# Altium schematic symbol library Devs.SchLib: 148 symbols
Pins are listed as number, name and electrical type; pins without a type are passive.

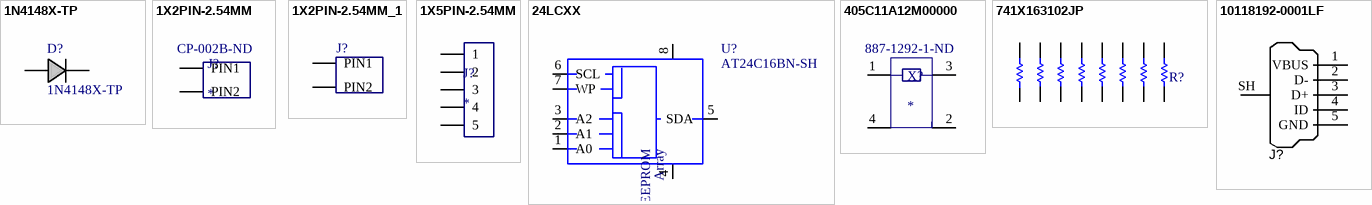
[diagram p0: symbols 1N4148X-TP to 10118192-0001LF]

## 1N4148X-TP
designator D?
DIODE GEN PURP 100V 150MA SOD123; Supplier 1: Digi-Key; Supplier Part Number 1: 1N4148WTPMSCT-ND
footprint SOD-123F (Powerlite-123)
pins: 1 +, 2 -

## 1X2PIN-2.54MM
designator J?  Supplier Part Number 1: CP-002B-ND
Supplier 1: Digi-Key
footprint HDR1X2 (Connector; Header; 2 Position)
pins: 1 PIN1, 2 PIN2

## 1X2PIN-2.54MM_1
designator J?, comment 1X2PIN-2.54MM  (value not drawn)
footprint HDR1X2 (Connector; Header; 2 Position)
pins: 1 PIN1, 2 PIN2

## 1X5PIN-2.54MM
designator J?
footprint HDR1X5
pins: 1, 2, 3, 4, 5

## 24LCXX
designator U?, comment AT24C16BN-SH
footprint SO-08MN (USECOMPONENTLIBRARY=T)
pins: 1 A0, 2 A1, 3 A2, 4 GND, 5 SDA, 6 SCL, 7 WP, 8 VCC
text: EEPROM; Array

## 405C11A12M00000
designator X?  Supplier Part Number 2: 887-1292-1-ND
CRYSTAL 12MHZ 10PF SMD; Supplier 1: Digi-Key; Supplier Part Number 1: CTX833CT-ND; Supplier 2: Digi-Key
footprint 4-SMD, No Lead (DFN, LCC) (4-SMD, No Lead (DFN, LCC), 4-Leads. Body 5.00x3.20mm)
pins: 1 OSC_1, 2 GND (power), 3 OSC_2, 4 GND (power)

## 741X163102JP
designator R?  (value not drawn)
RES ARRAY 1K OHM 8 RES 1506; Supplier 1: Digi-Key; Supplier Part Number 1: 741X163102JPCT-ND
footprint EXB SERIES - 1506
pins: 1, 2, 3, 4, 5, 6, 7, 8, 9, 10, 11, 12, 13, 14, 15, 16

## 10118192-0001LF
designator J?, comment USB Micro Type B  (value not drawn)
CONN USB MICRO B RECPT SMT R/A; Supplier 1: Digi-Key; Supplier Part Number 1: 609-4613-1-ND
footprint USB_MICRO_B SMT
pins: 1 VBUS, 2 D-, 3 D+, 4 ID, 5 GND, SH Shell

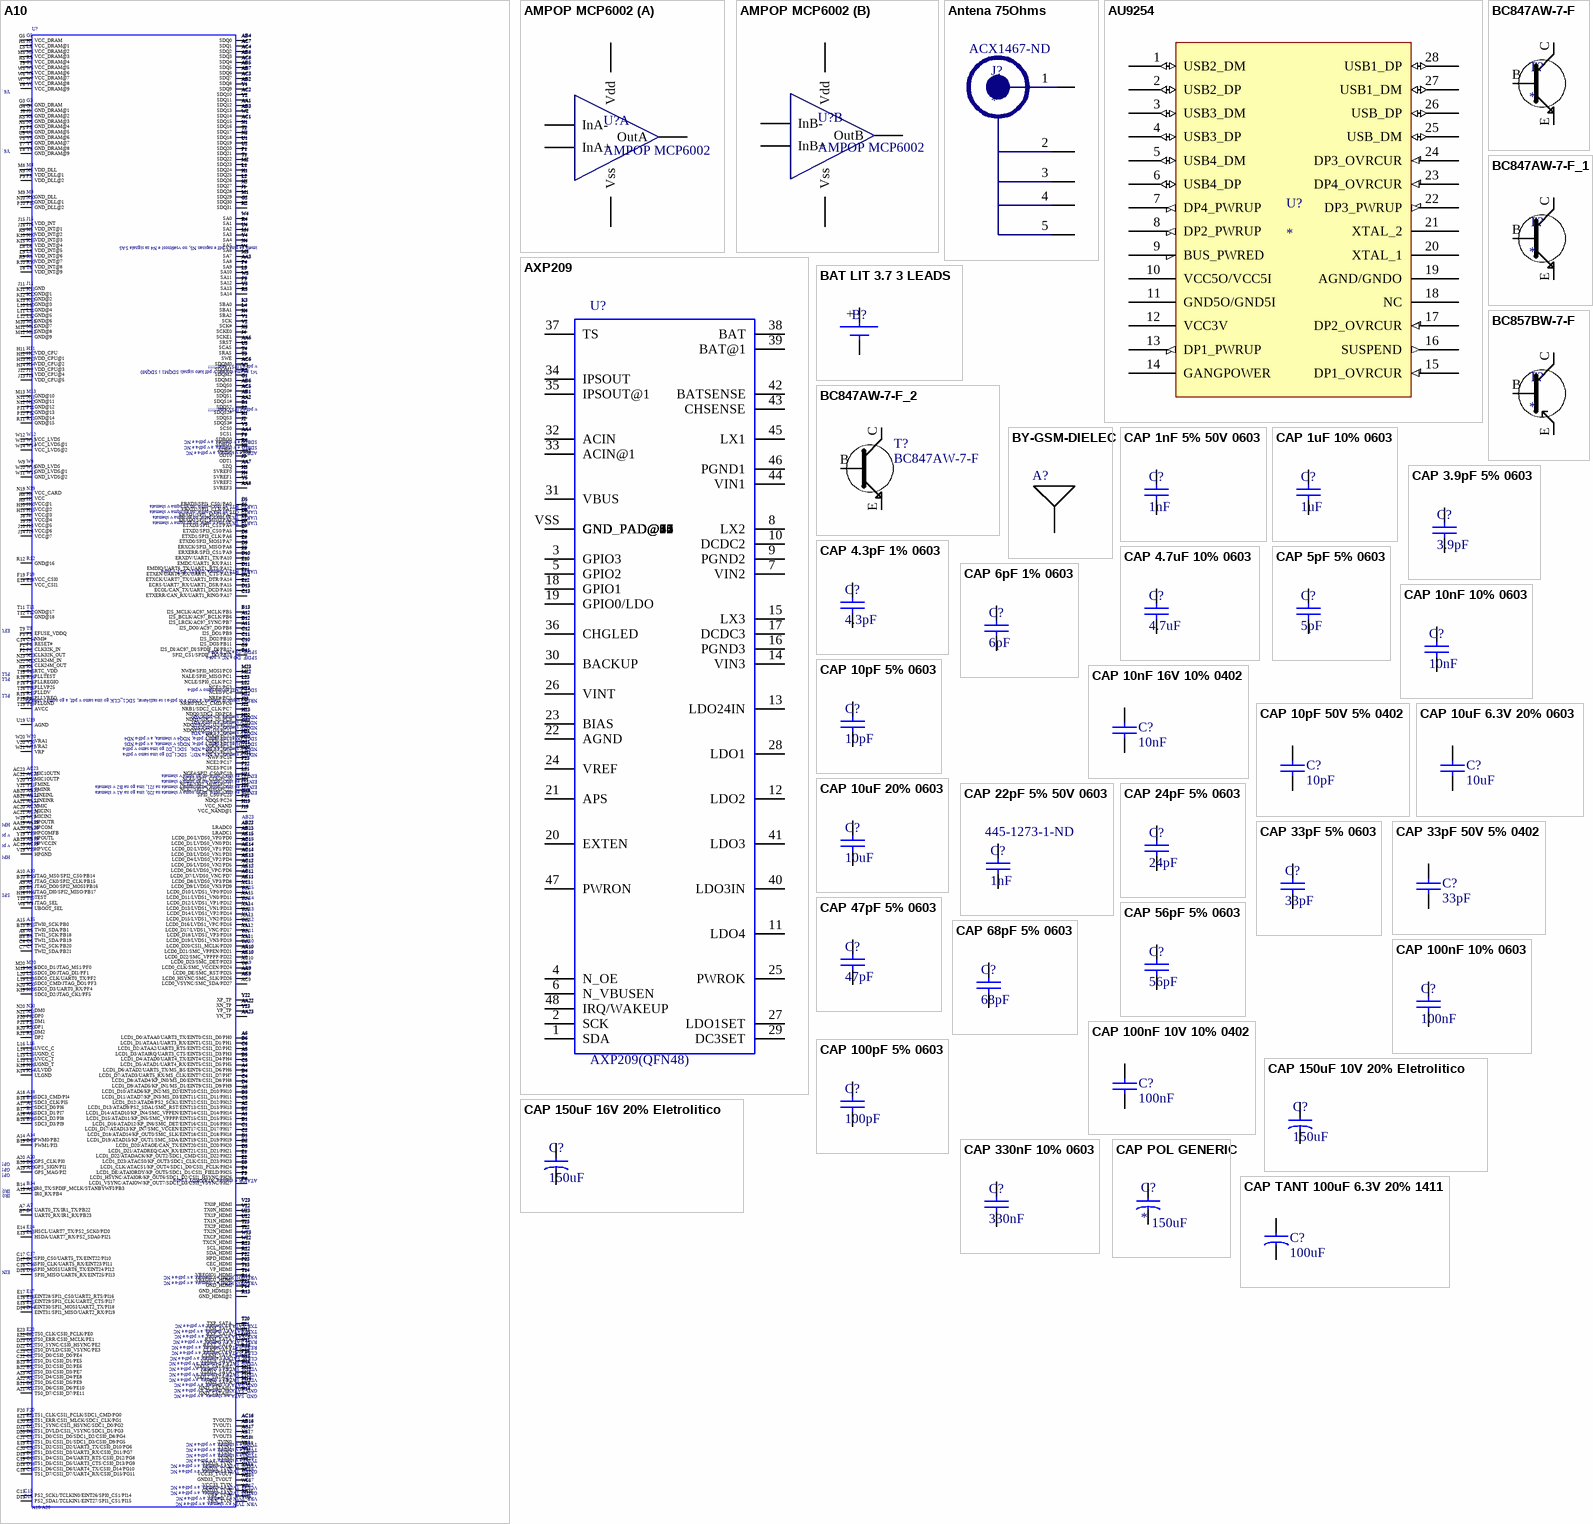
[diagram p1: symbols A10 to CAP TANT 100uF 6.3V 20% 1411]

## A10
designator U?, comment A10/A20
footprint TFBGA441 (USECOMPONENTLIBRARY=T)
pins: A1 LCD1_D15/ATAD11/KP_IN5/SMC_VPPPP/EINT15/CSI1_D15/PH15, A2 LCD1_D13/ATAD9/PS2_SDA1/SMC_RST/EINT13/CSI1_D13/PH13, A3 LCD1_D10/ATAD6/KP_IN2/MS_D2/EINT10/CSI1_D10/PH10, A4 LCD1_D6/ATAD2/UART5_TX/MS_BS/EINT6/CSI1_D6/PH6, A5 LCD1_D3/ATAIRQ/UART3_CTS/EINT3/CSI1_D3/PH3, A6 LCD1_D0/ATAA0/UART3_TX/EINT0/CSI1_D0/PH0, A7 UART0_TX/IR1_TX/PB22, A8 TWI1_SCK/PB18, A9 JTAG_DO0/SPI2_MOSI/PB16, A10 JTAG_MS0/SPI2_CS0/PB14, A11 I2S_DO0/AC97_DO/PB8, A12 I2S_BCLK/AC97_BCLK/PB6, A13 IR0_RX/PB4, A14 PWM0/PB2, A15 TWI0_SCK/PB0, A16 SDC3_D2/PI8, A17 SDC3_D0/PI6, A18 SDC3_CMD/PI4, A19 GPS_MAG/PI2, A20 GPS_CLK/PI0, A21 TS0_D7/CSI0_D7/PE11, A22 TS0_D5/CSI0_D5/PE9, A23 TS0_D4/CSI0_D4/PE8, AA1 SDQ12, AA2 SDQS1#, AA3 SA8, AA4 SCS1, AA5 ODT0, AA6 SRST, AA7 SZQ, AA8 SVREF3, AA9 LCD0_DE/SMC_RST/PD25, AA10 LCD0_D21/SMC_VPPEN/PD21, AA11 LCD0_D19/LVDS1_VN3/PD19, AA12 LCD0_D17/LVDS1_VNC/PD17, AA13 LCD0_D15/LVDS1_VN2/PD15, AA14 LCD0_D13/LVDS1_VN1/PD13, AA15 LCD0_D11/LVDS1_VN0/PD11, AA16 VRP_TVIN, AA17 TVIN2, AA18 GND25_TVIN, AA19 HPCOM, AA20 HPCOMFB, AA21 VMIC, AA22 XN_TP, AA23 YN_TP, AB1 SDQS1, AB2 SDQ8, AB3 SDQ13, AB4 SDQ0, AB5 SDQ5, AB6 SDQS0, AB7 SDQ6, AB8 SDQ3, AB9 LCD0_HSYNC/SMC_SLK/PD26, AB10 LCD0_D22/SMC_VPPPP/PD22, AB11 LCD0_D8/LVDS0_VP3/PD8, AB12 LCD0_D6/LVDS0_VPC/PD6, AB13 LCD0_D4/LVDS0_VP2/PD4, AB14 LCD0_D2/LVDS0_VP1/PD2, AB15 LCD0_D0/LVDS0_VP0/PD0, AB16 TVOUT1, AB17 TVOUT3, AB18 TVIN1, AB19 HPVCCIN, AB20 LINEINL, AB21 LINEINR, AB22 LRADC1, AB23 LRADC0, AC1 SDQ15, AC2 SDQ10, AC3 SDQ7, AC4 SDQ2, AC5 SDQS0#, AC6 SDQM0, AC7 SDQ1, AC8 SDQ4, AC9 LCD0_VSYNC/SMC_SDA/PD27, AC10 LCD0_D23/SMC_DET/PD23, AC11 LCD0_D9/LVDS0_VN3/PD9, AC12 LCD0_D7/LVDS0_VNC/PD7, AC13 LCD0_D5/LVDS0_VN2/PD5, AC14 LCD0_D3/LVDS0_VN1/PD3, AC15 LCD0_D1/LVDS0_VN0/PD1, AC16 TVOUT0, AC17 TVOUT2, AC18 TVIN0, AC19 HPVCC, AC20 MICIN1, AC21 MICIN2, AC22 MIC1OUTP, AC23 MIC1OUTN, B1 LCD1_D16/ATAD12/KP_IN6/SMC_DET/EINT16/CSI1_D16/PH16, B2 LCD1_D14/ATAD10/KP_IN4/SMC_VPPEN/EINT14/CSI1_D14/PH14, B3 LCD1_D11/ATAD7/KP_IN3/MS_D3/EINT11/CSI1_D11/PH11, B4 LCD1_D7/ATAD3/UART5_RX/MS_CLK/EINT7/CSI1_D7/PH7, B5 LCD1_D4/ATAD0/UART4_TX/EINT4/CSI1_D4/PH4, B6 LCD1_D1/ATAA1/UART3_RX/EINT1/CSI1_D1/PH1, B7 UART0_RX/IR1_RX/PB23, B8 TWI1_SDA/PB19, B9 JTAG_DI0/SPI2_MISO/PB17, B10 JTAG_CK0/SPI2_CLK/PB15, B11 SPI2_CS1/SPDIF_DO/PB13, B12 I2S_LRCK/AC97_SYNC/PB7, B13 I2S_MCLK/AC97_MCLK/PB5, B14 IR0_TX/SPDIF_MCLK/STANBYWFI/PB3, B15 TWI0_SDA/PB1, B16 SDC3_D3/PI9, B17 SDC3_D1/PI7, B18 SDC3_CLK/PI5, B19 PWM1/PI3, B20 GPS_SIGN/PI1, B21 TS0_D6/CSI0_D6/PE10, B22 TS0_D3/CSI0_D3/PE7, B23 TS0_D2/CSI0_D2/PE6, C1 LCD1_D17/ATAD13/KP_IN7/SMC_VCCEN/EINT17/CSI1_D17/PH17, C2 LCD1_D18/ATAD14/KP_OUT0/SMC_SLK/EINT18/CSI1_D18/PH18, C3 LCD1_D12/ATAD8/PS2_SCK1/EINT12/CSI1_D12/PH12, C4 LCD1_D8/ATAD4/KP_IN0/MS_D0/EINT8/CSI1_D8/PH8, C5 LCD1_D5/ATAD1/UART4_RX/EINT5/CSI1_D5/PH5, C6 LCD1_D2/ATAA2/UART3_RTS/EINT2/CSI1_D2/PH2, C7 TWI2_SDA/PB21, C8 TWI2_SCK/PB20, C9 I2S_DI/AC97_DI/SPDIF_DI/PB12, C10 I2S_DO3/PB11, C11 I2S_DO2/PB10, C12 I2S_DO1/PB9, C13 ETXERR/CAN_RX/UART1_RING/PA17, C14 RESET#, C15 PS2_SCK1/TCLKIN0/EINT26/SPI0_CS1/PI14, C16 SPI0_MOSI/UART6_TX/EINT24/PI12, C17 SPI0_CS0/UART5_TX/EINT22/PI10, C18 TS1_D7/CSI1_D7/UART4_RX/CSI0_D15/PG11, C19 TS1_D5/CSI1_D5/UART3_CTS/CSI0_D13/PG9, C20 TS1_D3/CSI1_D3/UART3_RX/CSI0_D11/PG7, C21 TS1_D1/CSI1_D1/SDC1_D3/CSI0_D9/PG5, C22 TS0_D1/CSI0_D1/PE5, C23 TS0_D0/CSI0_D0/PE4, D1 LCD1_D19/ATAD15/KP_OUT1/SMC_SDA/EINT19/CSI1_D19/PH19, D2 LCD1_D20/ATAOE/CAN_TX/EINT20/CSI1_D20/PH20, D3 LCD1_D21/ATADREQ/CAN_RX/EINT21/CSI1_D21/PH21, D4 LCD1_D9/ATAD5/KP_IN1/MS_D1/EINT9/CSI1_D9/PH9, D5 ERXD3/SPI1_CS0//PA0, D6 ERXD1/SPI1_MOSI/PA2, D7 ETXD3/SPI1_CS1/PA4, D8 ETXD1/SPI3_CLK/PA6, D9 ERXCK/SPI3_MISO/PA8, D10 ERXDV/UART1_TX/PA10, D11 EMDIO/UART6_TX/UART1_RTS/PA12, D12 ETXCK/UART7_TX/UART1_DTR/PA14, D13 ECOL/CAN_TX/UART1_DCD/PA16, D14 EINT31/SPI1_MISO/UART2_RX/PI19, D15 PS2_SDA1/TCLKIN1/EINT27/SPI1_CS1/PI15, D16 SPI0_MISO/UART6_RX/EINT25/PI13, D17 SPI0_CLK/UART5_RX/EINT23/PI11, D18 TS1_D6/CSI1_D6/UART4_TX/CSI0_D14/PG10, D19 TS1_D4/CSI1_D4/UART3_RTS/CSI0_D12/PG8, D20 TS1_D0/CSI1_D0/SDC1_D2/CSI0_D8/PG4, D21 TS1_DVLD/CSI1_VSYNC/SDC1_D1/PG3, D22 TS0_DVLD/CSI0_VSYNC/PE3, D23 TS0_SYNC/CSI0_HSYNC/PE2, E1 LCD1_D22/ATADACK/KP_OUT2/SDC1_CMD/CSI1_D22/PH22, E2 LCD1_D23/ATACS0/KP_OUT3/SDC1_CLK/CSI1_D23/PH23, E3 LCD1_CLK/ATACS1/KP_OUT4/SDC1_D0/CSI1_PCLK/PH24, E4 LCD1_DE/ATAIORDY/KP_OUT5/SDC1_D1/CSI1_FIELD/PH25, E5 ERXD2/SPI1_CLK/PA1, E6 ERXD0/SPI1_MISO/PA3, E7 ETXD2/SPI3_CS0/PA5, E8 ETXD0/SPI3_MOSI/PA7, E9 ERXERR/SPI3_CS1/PA9, E10 EMDC/UART1_RX/PA11, E11 ETXEN/UART6_RX/UART1_CTS/PA13, E12 ECRS/UART7_RX/UART1_DSR/PA15, E13 HSDA/UART7_RX/PS2_SDA0/PI21, E14 HSCL/UART7_TX/PS2_SCK0/PI20, E15 EINT30/SPI1_MOSI/UART2_TX/PI18, E16 EINT29/SPI1_CLK/UART2_CTS/PI17, E17 EINT28/SPI1_CS0/UART2_RTS/PI16, E18 VCC_CSI1, E19 TS1_D2/CSI1_D2/UART3_TX/CSI0_D10/PG6, E20 TS1_SYNC/CSI1_HSYNC/SDC1_D0/PG2, E21 TS1_ERR/CSI1_MLCK/SDC1_CLK/PG1, E22 TS0_ERR/CSI0_MCLK/PE1, E23 TS0_CLK/CSI0_PCLK/PE0, F1 CLK32K_IN, F2 CLK32K_OUT, F3 LCD1_HSYNC/ATAIOR/KP_OUT6/SDC1_D2/CSI1_HSYNC/PH26, F4 LCD1_VSYNC/ATAIOW/KP_OUT7/SDC1_D3/CSI1_VSYNC/PH27, F5 NMI#, F19 VCC_CSI0, F20 TS1_CLK/CSI1_PCLK/SDC1_CMD/PG0, F21 NDQS/PC24, F22 NCE3/PC18, F23 NCE2/PC17, G1 SDQM3, G2 SDQ30, G3 GND_DRAM, G4 GND_DRAM@1, G5 VCC_DRAM, G19 SPI0_CS0/PC23, G20 NDQ7/PC15, G21 NDQ6/PC14, G22 NDQ3/SDC2_D3/PC11, G23 NDQ2/SDC2_D2/PC10, H1 SDQ25, H2 SDQ27, H3 SVREF0, H4 SVREF1, H5 VCC_DRAM@1, H8 VCC, H9 VCC@1, H10 VCC@2, H11 VDD_CPU, H12 VDD_CPU@1, H13 VDD_CPU@2, H14 VDD_CPU@3, H15 VCC@3, H16 TEST, H19 VCC_NAND, H20 NDQ5/PC13, H21 NDQ4/PC12, H22 NDQ1/SDC2_D1/PC9, H23 NDQ0/SDC2_D0/PC8, J1 SDQ28, J2 SDQS3#, J3 ODT1, J4 SCKE1, J5 GND_DRAM@2, J8 VCC@4, J9 VCC@5, J10 VCC@6, J11 GND, J12 VDD_CPU@4, J13 VDD_CPU@5, J14 VCC@7, J15 VDD_INT, J16 VDD_INT@1, J19 VCC_NAND@1, J20 NCE7/SPI2_MISO/PC22, J21 NCE6/SPI2_MOSI/PC21, J22 NRB1/SDC2_CLK/PC7, J23 NRB0/SDC2_CMD/PC6, K1 SDQS3, K2 SDQ31, K3 SBA0, K4 SBA2, K5 GND_DRAM@3, K8 RTC_VDD, K9 VDD_INT@2, K10 VDD_INT@3, K11 GND@1, K12 GND@2, K13 GND@3, K14 ULGND, K15 VDD_INT@4, K16 ULVDD, K19 SDC0_D2/JTAG_CK1/PF5, K20 SDC0_D3/UART0_RX/PF4, K21 NCE5/SPI2_CLK/PC20, K22 NRE#/PC5, K23 NCE0/PC4, L1 SDQ24, L2 SDQ26, L3 SA10, L4 SBA1, L5 VCC_DRAM@2, L8 VDD_INT@5, L9 VDD_INT@6, L10 GND@4, L11 GND@5, L12 GND@6, L13 UGND_T, L14 UGND_C, L15 UVCC_T, L16 UVCC_C, L19 SDC0_CMD/JTAG_DO1/PF3, L20 SDC0_CLK/UART0_TX/PF2, L21 NCE4/SPI2_CS0/PC19, L22 NCE1/PC3, L23 NCLE/SPI0_CLK/PC2, M1 SDQ29, M2 SDQ23, M3 SA7, M4 SA3, M5 VCC_DRAM@3, M8 VDD_DLL, M9 GND_DLL, M10 GND@7, M11 GND@8, M12 GND@9, M13 GND@10, M14 GND_SATA, M15 VDD12_SATA, M16 VDD12_SATA@1, M19 SDC0_D0/JTAG_DI1/PF1, M20 SDC0_D1/JTAG_MS1/PF0, M21 NWP/PC16, M22 NALE/SPI0_MISO/PC1, M23 NWE#/SPI0_MOSI/PC0, N1 SDQ16, N2 SDQ18, N3 SCKE0, N4 SA5, N5 GND_DRAM@4, N8 ADBG, N9 VDD_DLL@1, N10 GND_DLL@1, N11 GND@11, N12 GND@12, N13 GND_SATA@1, N14 GND_SATA@2, N15 VDD25_SATA, N16 VDD25_SATA@1, N19 VCC_CARD, N20 DM0, N21 DP0, N22 CLK24M_OUT, N23 CLK24M_IN, P1 SDQ21, P2 SDQS2#, P3 SA12, P4 SA9, P5 GND_DRAM@5, P8 SDBG0, P9 VDD_DLL@2, P10 GND_DLL@2, P11 GND@13, P12 GND@14, P13 GND_HDMI, P14 GND_HDMI@1, P15 PLLGND, P16 PLLVP25, P19 CLKM_SATA, P20 DM1, P21 DP1, P22 HPD_HDMI, P23 CEC_HDMI, R1 SDQS2, R2 SDQM2, R3 SA14, R4 SA1, R5 VCC_DRAM@4, R8 SDBG1, R9 VDD_INT@7, R10 VDD_INT@8, R11 GND@15, R12 GND@16, R13 GND_HDMI@2, R14 VREGIO2_HDMI, R15 PLLVREG, R16 PLLREGIO, R19 CLKP_SATA, R20 DM2, R21 DP2, R22 SDA_HDMI, R23 SCL_HDMI, T1 SDQ22, T2 SDQ17, T3 SWE, T4 SRAS, T5 VCC_DRAM@5, T8 VDD_INT@9, T9 EFUSE_VDDQ, T10 JTAG_SEL, T11 GND@17, T12 GND@18, T13 VP_HDMI, T14 VREGIO1_HDMI, T15 PLLTEST, T16 PLLDV, T19 AVCC, T20 TXP_SATA, T21 TXM_SATA, T22 TX2N_HDMI, T23 TX2P_HDMI, U1 SDQ19, U2 SDQ20, U3 SCAS, U4 SA2, U5 GND_DRAM@6, U19 AGND, U20 RXM_SATA, U21 RXP_SATA, U22 TX1N_HDMI, U23 TX1P_HDMI, V1 SCK, V2 SCK#, V3 SCS0, V4 SA6, V5 GND_DRAM@7, V19 HPGND, V20 VRA2, V21 REXT_SATA, V22 TX0N_HDMI, V23 TX0P_HDMI, W1 SDQM1, W2 SDQ14, W3 SA11, W4 SA0, W5 VCC_DRAM@6, W6 VCC_DRAM@7, W7 VCC_DRAM@8, W8 UBOOT_SEL, W9 GND_LVDS, W10 GND_LVDS@1, W11 GND_LVDS@2, W12 VCC_LVDS, W13 VCC_LVDS@1, W14 VCC_LVDS@2, W15 VCC33_TVOUT, W16 VCC33_TVIN, W17 VDD25_TVIN, W18 GND33_TVOUT, W19 HPOUTR, W20 VRA1, W21 VRP, W22 TXCN_HDMI, W23 TXCP_HDMI, Y1 SDQ9, Y2 SDQ11, Y3 SA13, Y4 SA4, Y5 SVREF2, Y6 VCC_DRAM@9, Y7 GND_DRAM@8, Y8 GND_DRAM@9, Y9 LCD0_CLK/SMC_VCCEN/PD24, Y10 LCD0_D20/CSI1_MCLK/PD20, Y11 LCD0_D18/LVDS1_VP3/PD18, Y12 LCD0_D16/LVDS1_VPC/PD16, Y13 LCD0_D14/LVDS1_VP2/PD14, Y14 LCD0_D12/LVDS1_VP1/PD12, Y15 LCD0_D10/LVDS1_VP0/PD10, Y16 VRN_TVIN, Y17 TVIN3, Y18 GND33_TVIN, Y19 HPOUTL, Y20 FMINL, Y21 FMINR, Y22 XP_TP, Y23 YP_TP
text: Y6 go nqma kato signal v pdf-a, v pdf-a se povtarq 2 pati signala Y7 za GND i VCC; imeto na pina v pdf e napisan N5, no vsa6tnost e N4 za signala SA5; v pdf-a LIPSVAaaa!!!!!!!; W1 go ima dva pati v pdf kato signali SDQM1 i SDQM0; SDBG0 e v shemata, a v pdf-a e NC; SDBG1 e v shemata, a v pdf-a e NC; ADBG e v shemata, a v pdf-a e NC; UART2_RTS go ima v pdf-a, no go nqma v shemata; UART2_CTS go ima v pdf-a, no go nqma v shemata; UART2_TX go ima v pdf-a, no go nqma v shemata; UART1_RTS v shemata, UART1_RST v pdf-a; EFUSE_VDDQ e v shemata, a v pdf-a e GND; SPDIF_DI e NC v pdf-a; SPDIF_DO e NC v pdf-a; PLLTEST e v shemata, a v pdf-a e NC; PLLREGIO e v shemata, a v pdf-a e NC; SDC1_CMD go ima samo v pdf-a; PLLVREG e v shemata, a v pdf-a e NC; NRE# e signal ot shemata, a NRD e ot pdf-a i se razli4avat, SDC1_CLK go ima samo v pdf, a go nqma v shemata; NDQ0 v shemata, a v pdf-a ND0; NDQ1 v shemata, a v pdf-a ND1; NDQ2 v shemata, a v pdf-a ND2; NDQ3 v shemata, a v pdf-a ND3; SDC1_D0 go ima samo v pdf-a; NDQ4 v shemata, a v pdf-a ND4; SDC1_D1 go ima samo v pdf-a; NDQ5 v shemata, a v pdf-a ND5; NDQ6 v shemata, a v pdf-a ND6;  SDC1_D2 go ima samo v pdf-a; NDQ7 v shemata, a v pdf-a ND7;  SDC1_D3 go ima samo v pdf-a; EINT12 go ima v pdf-a, no go nqma v shemata; EINT13 go ima v pdf-a, no go nqma v shemata; EINT14 go ima v pdf-a, no go nqma v shemata na J21, ima go na B2 v shemata; EINT15 go ima v pdf-a, no go nqma v shemata na J20, ima go na A1 v shemata; HPOUTR e v shemata, a v pdf-a e HPR; HPOUTL e v shemata, a v pdf-a e HPL; SPI2_MISO v pdf-a e MOSO; GPS_CLK e NC v pdf-a; GPS_SIGN e NC v pdf-a; GPS_MAG e NC v pdf-a; ATAIOR v shemata, ATAIORDY v pdf-a; IR0_TX v pdf=a e bez 0, SPDIF_MCLK i STANBYWFI gi nqma, tam e NC; IR0_RX e bez 0 v pdf-a; EINT24 v pdf-a e EINT2; VREGIO1_HDMI e v shemata, a v pdf-a e NC; VREGIO2_HDMI e v shemata, a v pdf-a e NC; TXP_SATA e v shemata, a v pdf-a e NC; TXM_SATA e v shemata, a v pdf-a e NC; RXP_SATA e v shemata, a v pdf-a e NC; RXM_SATA e v shemata, a v pdf-a e NC; REXT_SATA e v shemata, a v pdf-a e NC; CLKP_SATA e v shemata, a v pdf-a e NC; CLKM_SATA e v shemata, a v pdf-a e NC; VDD25_SATA e v shemata, a v pdf-a e NC; VDD12_SATA e v shemata, a v pdf-a e NC; GND_SATA e v shemata, a v pdf-a e NC; TVIN0 e v shemata, a v pdf-a e NC; TVIN1 e v shemata, a v pdf-a e NC; TVIN2 e v shemata, a v pdf-a e NC; TVIN3 e v shemata, a v pdf-a e NC; VDD25_TVIN e v shemata, a v pdf-a e NC; GND25_TVIN e v shemata, a v pdf-a e NC; VCC33_TVIN e v shemata, a v pdf-a e NC; GND33_TVIN e v shemata, a v pdf-a e NC; VRP_TVIN e v shemata, a v pdf-a e NC; VRN_TVIN e v shemata, a v pdf-a e NC

## AMPOP MCP6002
designator U?
IC OPAMP GP 1MHZ RRO 8MSOP; Supplier 1: Digi-Key; Supplier Part Number 1: MCP6002-I/MS-ND
footprint MSOP-8 (TSOP, 8-Leads, Body 3x3mm, Pitch 0.65mm, IPC Low Density)
part A pins: 1 OutA, 2 InA-, 3 InA+, 4 Vss, 8 Vdd
part B pins: 4 Vss, 5 InB+, 6 InB-, 7 OutB, 8 Vdd

## Antena 75Ohms
designator J?  Supplier Part Number 1: ACX1467-ND
CONN F JACK R/A 75 OHM PCB; Supplier 1: Digi-Key
footprint CONN _F-JACK (CONN _F-JACK, 5-pins)
pins: 1, 2, 3, 4, 5

## AU9254
designator U?
AU9254
footprint SSOP-28_M (SOP, 28-Leads, Body 10.2x5.3mm, Pitch 0.65mm, IPC Low Density)
pins: 1 USB2_DM (io), 2 USB2_DP (io), 3 USB3_DM (io), 4 USB3_DP (io), 5 USB4_DM (io), 6 USB4_DP (io), 7 DP4_PWRUP (out), 8 DP2_PWRUP (out), 9 BUS_PWRED , 10 VCC5O/VCC5I (power), 11 GND5O/GND5I (power), 12 VCC3V (power), 13 DP1_PWRUP (out), 14 GANGPOWER, 15 DP1_OVRCUR (in), 16 SUSPEND (out), 17 DP2_OVRCUR (in), 18 NC, 19 AGND/GNDO (power), 20 XTAL_1, 21 XTAL_2, 22 DP3_PWRUP (out), 23 DP4_OVRCUR (in), 24 DP3_OVRCUR (in), 25 USB_DM (io), 26 USB_DP (io), 27 USB1_DM (io), 28 USB1_DP (io)

## AXP209
designator U?, comment AXP209(QFN48)
footprint QFN48 (USECOMPONENTLIBRARY=T)
pins: 1 SDA, 2 SCK, 3 GPIO3, 4 N_OE, 5 GPIO2, 6 N_VBUSEN, 7 VIN2, 8 LX2, 9 PGND2, 10 DCDC2, 11 LDO4, 12 LDO2, 13 LDO24IN, 14 VIN3, 15 LX3, 16 PGND3, 17 DCDC3, 18 GPIO1, 19 GPIO0/LDO, 20 EXTEN, 21 APS, 22 AGND, 23 BIAS, 24 VREF, 25 PWROK, 26 VINT, 27 LDO1SET, 28 LDO1, 29 DC3SET, 30 BACKUP, 31 VBUS, 32 ACIN, 33 ACIN@1, 34 IPSOUT, 35 IPSOUT@1, 36 CHGLED, 37 TS, 38 BAT, 39 BAT@1, 40 LDO3IN, 41 LDO3, 42 BATSENSE, 43 CHSENSE, 44 VIN1, 45 LX1, 46 PGND1, 47 PWRON, 48 IRQ/WAKEUP, N1 GND_PAD@1, N2 GND_PAD@2, N3 GND_PAD@3, N4 GND_PAD@4, N5 GND_PAD@5, N6 GND_PAD@6, N7 GND_PAD@7, N8 GND_PAD@8, N9 GND_PAD@9, N10 GND_PAD@10, N11 GND_PAD@11, N12 GND_PAD@12, N13 GND_PAD@13, N14 GND_PAD@14, N15 GND_PAD@15, N16 GND_PAD@16, N17 GND_PAD@17, VSS GND_PAD

## BAT LIT 3.7 3 LEADS
designator B?, comment 3.7V  (value not drawn)
footprint BAT 3 LEADS (BAT 3 LEADS LITIO)
pins: + 2, - 1

## BC847AW-7-F
designator T?
TRANS BIPO NPN 200MW SC70-3; Supplier 1: Digi-Key; Supplier Part Number 1: BC847AW-7FDIDKR-ND
footprint SOT-323
pins: B 1, C 2, E 3

## BC847AW-7-F_1
designator T?
TRANS BIPO NPN 200MW SC70-3; Supplier 1: Digi-Key; Supplier Part Number 1: BC847AW-7FDIDKR-ND
footprint SOT-323
pins: B 1, C 2, E 3

## BC847AW-7-F_2
designator T?, comment BC847AW-7-F
TRANS BIPO NPN 200MW SC70-3; Supplier 1: Digi-Key; Supplier Part Number 1: BC847AW-7FDICT-ND
footprint SOT-323
pins: B 1, C 2, E 3

## BC857BW-7-F
designator T?
TRANS PNP BIPOLAR 45V SC70-3; Supplier 1: Digi-Key; Supplier Part Number 1: BC857BW-FDICT-ND
footprint SOT-323
pins: B 1, C 2, E 3

## BY-GSM-DIELEC
designator A?  (value not drawn)
footprint ANTENAGSM
pins: C hidden to GND, F, S hidden to GND

## CAP 1nF 5% 50V 0603
designator C?, comment 1nF
Supplier 1: Digi-Key; Supplier Part Number 1: 399-3293-1-ND
footprint 0603
pins: 1, 2

## CAP 1uF 10% 0603
designator C?, comment 1uF
Supplier 1: Digi-Key; Supplier 2: Digi-Key; Supplier Part Number 1: 1276-1024-1-ND; Supplier Part Number 2: 587-1242-1-ND
footprint 0603
pins: 1, 2

## CAP 3.9pF 5% 0603
designator C?, comment 3.9pF
Supplier 1: Digi-Key; Supplier 2: Digi-Key; Supplier Part Number 1: 1276-1146-1-ND; Supplier Part Number 2: 399-9081-1-ND
footprint 0603
pins: 1, 2

## CAP 4.3pF 1% 0603
designator C?, comment 4.3pF
Supplier 1: Digi-Key; Supplier 2: Digi-Key; Supplier Part Number 1: 1276-2309-1-ND; Supplier Part Number 2: 1276-2308-1-ND
footprint 0603
pins: 1, 2

## CAP 4.7uF 10% 0603
designator C?, comment 4.7uF
Supplier 1: Digi-Key; Supplier 2: Digi-Key; Supplier Part Number 1: 587-1785-1-ND; Supplier Part Number 2: 1276-1045-1-ND
footprint 0603
pins: 1, 2

## CAP 5pF 5% 0603
designator C?, comment 5pF
Supplier 1: Digi-Key; Supplier 2: Digi-Key; Supplier Part Number 1: 445-5033-1-ND; Supplier Part Number 2: 311-1054-1-ND
footprint 0603
pins: 1, 2

## CAP 6pF 1% 0603
designator C?, comment 6pF
Supplier 1: Digi-Key; Supplier 2: Digi-Key; Supplier Part Number 1: 445-5036-2-ND; Supplier Part Number 2: 1276-2133-1-ND
footprint 0603
pins: 1, 2

## CAP 10nF 10% 0603
designator C?, comment 10nF
Supplier 1: Digi-Key; Supplier 2: Digi-Key; Supplier Part Number 1: 1276-1009-1-ND; Supplier Part Number 2: 399-1091-1-ND
footprint 0603
pins: 1, 2

## CAP 10nF 16V 10% 0402
designator C?, comment 10nF
Supplier 1: Digi-Key; Supplier Part Number 1: 311-1042-1-ND
footprint 0402
pins: 1, 2

## CAP 10pF 5% 0603
designator C?, comment 10pF
Supplier 1: Digi-Key; Supplier Part Number 1: 1276-1027-6-ND
footprint 0603
pins: 1, 2

## CAP 10pF 50V 5% 0402
designator C?, comment 10pF
Supplier 1: Digi-Key; Supplier Part Number 1: 399-1011-1-ND
footprint 0402
pins: 1, 2

## CAP 10uF 6.3V 20% 0603
designator C?, comment 10uF
Supplier 1: Digi-Key; Supplier Part Number 1: 1276-1119-1-ND
footprint 0603
pins: 1, 2

## CAP 10uF 20% 0603
designator C?, comment 10uF
Supplier 1: Digi-Key; Supplier 2: Digi-Key; Supplier Part Number 1: 1276-1119-1-ND; Supplier Part Number 2: 445-4112-6-ND
footprint 0603
pins: 1, 2

## CAP 22pF 5% 50V 0603
designator C?, comment 1nF  Supplier Part Number 1: 445-1273-1-ND
Supplier 1: Digi-Key
footprint 0603
pins: 1, 2

## CAP 24pF 5% 0603
designator C?, comment 24pF
Supplier 1: Digi-Key; Supplier 2: Digi-Key; Supplier Part Number 1: 1276-1761-1-ND; Supplier Part Number 2: 399-9050-1-ND
footprint 0603
pins: 1, 2

## CAP 33pF 5% 0603
designator C?, comment 33pF
Supplier 1: Digi-Key; Supplier 2: Digi-Key; Supplier Part Number 1: 399-1055-1-ND; Supplier Part Number 2: 1276-1070-1-ND
footprint 0603
pins: 1, 2

## CAP 33pF 50V 5% 0402
designator C?, comment 33pF
Supplier 1: Digi-Key; Supplier Part Number 1: 712-1297-1-ND
footprint 0402
pins: 1, 2

## CAP 47pF 5% 0603
designator C?, comment 47pF
Supplier 1: Digi-Key; Supplier 2: Digi-Key; Supplier Part Number 1: 1276-2296-1-ND; Supplier Part Number 2: 445-13622-1-ND
footprint 0603
pins: 1, 2

## CAP 56pF 5% 0603
designator C?, comment 56pF
Supplier 1: Digi-Key; Supplier 2: Digi-Key; Supplier Part Number 1: 1276-1197-1-ND; Supplier Part Number 2: 399-1057-2-ND
footprint 0603
pins: 1, 2

## CAP 68pF 5% 0603
designator C?, comment 68pF
Supplier 1: Digi-Key; Supplier 2: Digi-Key; Supplier Part Number 1: 311-1067-1-ND; Supplier Part Number 2: 1276-1135-1-ND
footprint 0603
pins: 1, 2

## CAP 100nF 10% 0603
designator C?, comment 100nF
Supplier 1: Digi-Key; Supplier 2: Digi-Key; Supplier Part Number 1: 399-1095-1-ND; Supplier Part Number 2: 311-1369-1-ND
footprint 0603
pins: 1, 2

## CAP 100nF 10V 10% 0402
designator C?, comment 100nF
Supplier 1: Digi-Key; Supplier Part Number 1: 587-1227-1-ND
footprint 0402
pins: 1, 2

## CAP 100pF 5% 0603
designator C?, comment 100pF
Supplier 1: Digi-Key; Supplier 2: Digi-Key; Supplier Part Number 1: 1276-1295-6-ND; Supplier Part Number 2: 445-4675-1-ND
footprint 0603
pins: 1, 2

## CAP 150uF 10V 20% Eletrolitico
designator C?, comment 150uF
CAP 150uF 10V 20% Eletrolitico; Lifetime expected: 2000 Hrs @ 105°C; Supplier 1: Digi-Key; Supplier Part Number 1: PCE3773CT-ND
footprint Radial, Can - SMD
pins: 1, 2

## CAP 150uF 16V 20% Eletrolitico
designator C?, comment 150uF
CAP 150uF 16V 20% Eletrolitico *REVISAR PCB; Lifetime expected: 2000 Hrs @ 105°C; Supplier 1: Digi-Key; Supplier Part Number 1: 493-2263-1-ND
footprint Radial Capacitor SMD
pins: 1, 2

## CAP 330nF 10% 0603
designator C?, comment 330nF
Supplier 1: Digi-Key; Supplier 2: Digi-Key; Supplier Part Number 1: 399-4917-6-ND; Supplier Part Number 2: 445-5126-1-ND
footprint 0603
pins: 1, 2

## CAP POL GENERIC
designator C?
footprint Radial, Can - SMD
pins: 1, 2
text: 150uF

## CAP TANT 100uF 6.3V 20% 1411
designator C?, comment 100uF
Supplier 1: Digi-Key; Supplier Part Number 1: 478-8156-1-ND
footprint 1411
pins: 1 +, 2 -

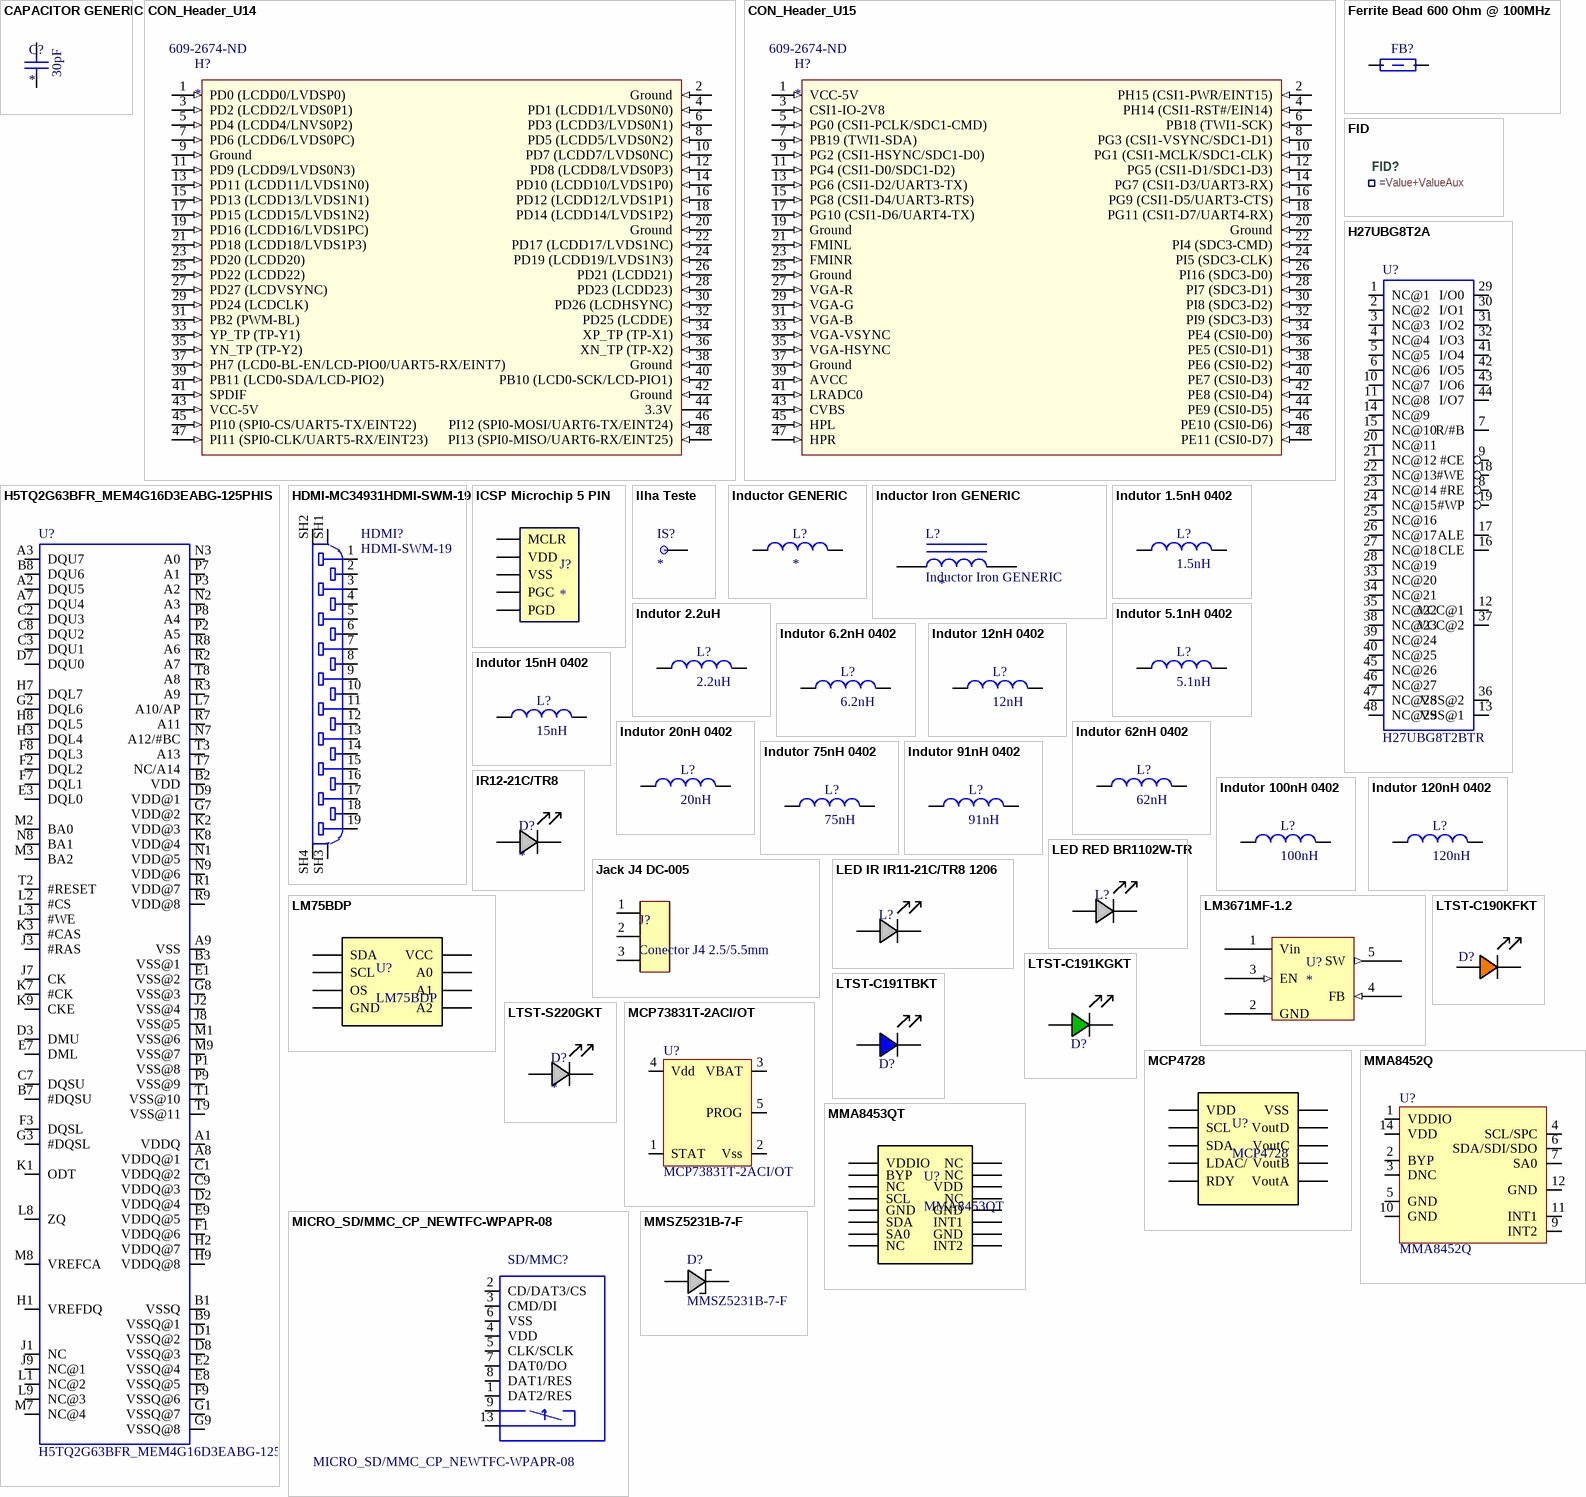
[diagram p2: symbols CAPACITOR GENERIC to MMSZ5231B-7-F]

## CAPACITOR GENERIC
designator C?  value 30pF
footprint 0402
footprint 0603
footprint 0805
pins: 1, 2

## CON_Header_U14
designator H?  Supplier Part Number 1: 609-2674-ND
Manufacturer: Samtec; Manufacturer_No: SQW-124-01-F-D; HelpURL: https://www.google.com/url?sa=t&rct=j&q=&esrc=s&source=web&cd=7&cad=rja&ved=0CF0QFjAG&url=http%3A%2F%2Fwww.samtec.com%2Fdocuments%2Fwebfiles%2Fpdf%2Fsqw.pdf&ei=aWb0UZSDFOL-iwLX6oCwCA&usg=AFQjCNFMvs6D7qC2ZMklPtuMWhNEAlYTDw&sig2=AR9oo9yZXhm1E6W_WTwiMw&bvm=bv.49784469,d.cGE; Supplier 1: Digi-Key
footprint Samtec_SQW-124-01-F-D (Samtec 2x24 2mm Pitch TH Socket)
pins: 1 PD0 (LCDD0/LVDSP0) (in) "S/PDIF In", 2 Ground (in) "S/PDIF In", 3 PD2 (LCDD2/LVDS0P1) (in) "S/PDIF In", 4 PD1 (LCDD1/LVDS0N0) (in) "S/PDIF In", 5 PD4 (LCDD4/LNVS0P2) (in) "S/PDIF In", 6 PD3 (LCDD3/LVDS0N1) (in) "S/PDIF In", 7 PD6 (LCDD6/LVDS0PC) (in) "S/PDIF In", 8 PD5 (LCDD5/LVDS0N2) (in) "S/PDIF In", 9 Ground (in) "S/PDIF In", 10 PD7 (LCDD7/LVDS0NC) (in) "S/PDIF In", 11 PD9 (LCDD9/LVDS0N3) (in) "S/PDIF In", 12 PD8 (LCDD8/LVDS0P3) (in) "S/PDIF In", 13 PD11 (LCDD11/LVDS1N0) (in) "S/PDIF In", 14 PD10 (LCDD10/LVDS1P0) (in) "S/PDIF In", 15 PD13 (LCDD13/LVDS1N1) (in) "S/PDIF In", 16 PD12 (LCDD12/LVDS1P1) (in) "S/PDIF In", 17 PD15 (LCDD15/LVDS1N2) (in) "S/PDIF In", 18 PD14 (LCDD14/LVDS1P2) (in) "S/PDIF In", 19 PD16 (LCDD16/LVDS1PC) (in) "S/PDIF In", 20 Ground (in) "S/PDIF In", 21 PD18 (LCDD18/LVDS1P3) (in) "S/PDIF In", 22 PD17 (LCDD17/LVDS1NC) (in) "S/PDIF In", 23 PD20 (LCDD20) (in) "S/PDIF In", 24 PD19 (LCDD19/LVDS1N3) (in) "S/PDIF In", 25 PD22 (LCDD22) (in) "S/PDIF In", 26 PD21 (LCDD21) (in) "S/PDIF In", 27 PD27 (LCDVSYNC) (in) "S/PDIF In", 28 PD23 (LCDD23) (in) "S/PDIF In", 29 PD24 (LCDCLK) (in) "S/PDIF In", 30 PD26 (LCDHSYNC) (in) "S/PDIF In", 31 PB2 (PWM-BL) (in) "S/PDIF In", 32 PD25 (LCDDE) (in) "S/PDIF In", 33 YP_TP (TP-Y1) (in) "S/PDIF In", 34 XP_TP (TP-X1) (in) "S/PDIF In", 35 YN_TP (TP-Y2) (in) "S/PDIF In", 36 XN_TP (TP-X2) (in) "S/PDIF In", 37 PH7 (LCD0-BL-EN/LCD-PIO0/UART5-RX/EINT7) (in) "S/PDIF In", 38 Ground (in) "S/PDIF In", 39 PB11 (LCD0-SDA/LCD-PIO2) (in) "S/PDIF In", 40 PB10 (LCD0-SCK/LCD-PIO1) (in) "S/PDIF In", 41 SPDIF (in) "S/PDIF In", 42 Ground (in) "S/PDIF In", 43 VCC-5V (in) "S/PDIF In", 44 3.3V (power) "S/PDIF In", 45 PI10 (SPI0-CS/UART5-TX/EINT22) (in) "S/PDIF In", 46 PI12 (SPI0-MOSI/UART6-TX/EINT24) (in) "S/PDIF In", 47 PI11 (SPI0-CLK/UART5-RX/EINT23) (in) "S/PDIF In", 48 PI13 (SPI0-MISO/UART6-RX/EINT25) (in) "S/PDIF In"

## CON_Header_U15
designator H?  Supplier Part Number 1: 609-2674-ND
Manufacturer: Samtec; Manufacturer_No: SQW-124-01-F-D; HelpURL: https://www.google.com/url?sa=t&rct=j&q=&esrc=s&source=web&cd=7&cad=rja&ved=0CF0QFjAG&url=http%3A%2F%2Fwww.samtec.com%2Fdocuments%2Fwebfiles%2Fpdf%2Fsqw.pdf&ei=aWb0UZSDFOL-iwLX6oCwCA&usg=AFQjCNFMvs6D7qC2ZMklPtuMWhNEAlYTDw&sig2=AR9oo9yZXhm1E6W_WTwiMw&bvm=bv.49784469,d.cGE; Supplier 1: Digi-Key
footprint Samtec_SQW-124-01-F-D (Samtec 2x24 2mm Pitch TH Socket)
pins: 1 VCC-5V (in) "S/PDIF In", 2 PH15 (CSI1-PWR/EINT15) (in) "S/PDIF In", 3 CSI1-IO-2V8 (in) "S/PDIF In", 4 PH14 (CSI1-RST#/EIN14) (in) "S/PDIF In", 5 PG0 (CSI1-PCLK/SDC1-CMD) (in) "S/PDIF In", 6 PB18 (TWI1-SCK) (in) "S/PDIF In", 7 PB19 (TWI1-SDA) (in) "S/PDIF In", 8 PG3 (CSI1-VSYNC/SDC1-D1) (in) "S/PDIF In", 9 PG2 (CSI1-HSYNC/SDC1-D0) (in) "S/PDIF In", 10 PG1 (CSI1-MCLK/SDC1-CLK) (in) "S/PDIF In", 11 PG4 (CSI1-D0/SDC1-D2) (in) "S/PDIF In", 12 PG5 (CSI1-D1/SDC1-D3) (in) "S/PDIF In", 13 PG6 (CSI1-D2/UART3-TX) (in) "S/PDIF In", 14 PG7 (CSI1-D3/UART3-RX) (in) "S/PDIF In", 15 PG8 (CSI1-D4/UART3-RTS) (in) "S/PDIF In", 16 PG9 (CSI1-D5/UART3-CTS) (in) "S/PDIF In", 17 PG10 (CSI1-D6/UART4-TX) (in) "S/PDIF In", 18 PG11 (CSI1-D7/UART4-RX) (in) "S/PDIF In", 19 Ground (in) "S/PDIF In", 20 Ground (in) "S/PDIF In", 21 FMINL (in) "S/PDIF In", 22 PI4 (SDC3-CMD) (in) "S/PDIF In", 23 FMINR (in) "S/PDIF In", 24 PI5 (SDC3-CLK) (in) "S/PDIF In", 25 Ground (in) "S/PDIF In", 26 PI16 (SDC3-D0) (in) "S/PDIF In", 27 VGA-R (in) "S/PDIF In", 28 PI7 (SDC3-D1) (in) "S/PDIF In", 29 VGA-G (in) "S/PDIF In", 30 PI8 (SDC3-D2) (in) "S/PDIF In", 31 VGA-B (in) "S/PDIF In", 32 PI9 (SDC3-D3) (in) "S/PDIF In", 33 VGA-VSYNC (in) "S/PDIF In", 34 PE4 (CSI0-D0) (in) "S/PDIF In", 35 VGA-HSYNC (in) "S/PDIF In", 36 PE5 (CSI0-D1) (in) "S/PDIF In", 37 Ground (in) "S/PDIF In", 38 PE6 (CSI0-D2) (in) "S/PDIF In", 39 AVCC (in) "S/PDIF In", 40 PE7 (CSI0-D3) (in) "S/PDIF In", 41 LRADC0 (in) "S/PDIF In", 42 PE8 (CSI0-D4) (in) "S/PDIF In", 43 CVBS (in) "S/PDIF In", 44 PE9 (CSI0-D5) (in) "S/PDIF In", 45 HPL (in) "S/PDIF In", 46 PE10 (CSI0-D6) (in) "S/PDIF In", 47 HPR (in) "S/PDIF In", 48 PE11 (CSI0-D7) (in) "S/PDIF In"

## Ferrite Bead 600 Ohm @ 100MHz
designator FB?
Supplier 1: Digi-Key; Supplier Part Number 1: MH2029-601YDKR-ND
footprint 0805
pins: 1, 2

## FID
designator FID?
=Description
footprint FID (Fiducial to position the solder mask stencil.)

## H5TQ2G63BFR_MEM4G16D3EABG-125PHIS
designator U?, comment H5TQ2G63BFR_MEM4G16D3EABG-125
footprint FBGA96_MEM (USECOMPONENTLIBRARY=T)
pins: A1 VDDQ, A2 DQU5, A3 DQU7, A7 DQU4, A8 VDDQ@1, A9 VSS, B1 VSSQ, B2 VDD, B3 VSS@1, B7 #DQSU, B8 DQU6, B9 VSSQ@1, C1 VDDQ@2, C2 DQU3, C3 DQU1, C7 DQSU, C8 DQU2, C9 VDDQ@3, D1 VSSQ@2, D2 VDDQ@4, D3 DMU, D7 DQU0, D8 VSSQ@3, D9 VDD@1, E1 VSS@2, E2 VSSQ@4, E3 DQL0, E7 DML, E8 VSSQ@5, E9 VDDQ@5, F1 VDDQ@6, F2 DQL2, F3 DQSL, F7 DQL1, F8 DQL3, F9 VSSQ@6, G1 VSSQ@7, G2 DQL6, G3 #DQSL, G7 VDD@2, G8 VSS@3, G9 VSSQ@8, H1 VREFDQ, H2 VDDQ@7, H3 DQL4, H7 DQL7, H8 DQL5, H9 VDDQ@8, J1 NC, J2 VSS@4, J3 #RAS, J7 CK, J8 VSS@5, J9 NC@1, K1 ODT, K2 VDD@3, K3 #CAS, K7 #CK, K8 VDD@4, K9 CKE, L1 NC@2, L2 #CS, L3 #WE, L7 A10/AP, L8 ZQ, L9 NC@3, M1 VSS@6, M2 BA0, M3 BA2, M7 NC@4, M8 VREFCA, M9 VSS@7, N1 VDD@5, N2 A3, N3 A0, N7 A12/#BC, N8 BA1, N9 VDD@6, P1 VSS@8, P2 A5, P3 A2, P7 A1, P8 A4, P9 VSS@9, R1 VDD@7, R2 A7, R3 A9, R7 A11, R8 A6, R9 VDD@8, T1 VSS@10, T2 #RESET, T3 A13, T7 NC/A14, T8 A8, T9 VSS@11

## H27UBG8T2A
designator U?, comment H27UBG8T2BTR
footprint TSOP48 (USECOMPONENTLIBRARY=T)
pins: 1 NC@1, 2 NC@2, 3 NC@3, 4 NC@4, 5 NC@5, 6 NC@6, 7 R/#B, 8 #RE, 9 #CE, 10 NC@7, 11 NC@8, 12 VCC@1, 13 VSS@1, 14 NC@9, 15 NC@10, 16 CLE, 17 ALE, 18 #WE, 19 #WP, 20 NC@11, 21 NC@12, 22 NC@13, 23 NC@14, 24 NC@15, 25 NC@16, 26 NC@17, 27 NC@18, 28 NC@19, 29 I/O0, 30 I/O1, 31 I/O2, 32 I/O3, 33 NC@20, 34 NC@21, 35 NC@22, 36 VSS@2, 37 VCC@2, 38 NC@23, 39 NC@24, 40 NC@25, 41 I/O4, 42 I/O5, 43 I/O6, 44 I/O7, 45 NC@26, 46 NC@27, 47 NC@28, 48 NC@29

## HDMI-MC34931HDMI-SWM-19
designator HDMI?, comment HDMI-SWM-19
footprint HDMI-SWM-19 (USECOMPONENTLIBRARY=T)
pins: 1, 2, 3, 4, 5, 6, 7, 8, 9, 10, 11, 12, 13, 14, 15, 16, 17, 18, 19, SH1 20, SH2 21, SH3 22, SH4 23

## ICSP Microchip 5 PIN
designator J?
footprint HDR1X5
pins: 1 MCLR, 2 VDD, 3 VSS, 4 PGC, 5 PGD

## Ilha Teste
designator IS?  (no BOM)
footprint ILHA
pins: 1

## Inductor GENERIC
designator L?
footprint 0603
footprint 0805
footprint 0402
pins: 1, 2

## Inductor Iron GENERIC
designator L?
Magnetic-Core Inductor; Value: *
footprint 0402
pins: 1, 2

## Indutor 1.5nH 0402
designator L?, comment 1.5nH
Supplier 1: Digi-Key; Supplier 2: Digi-Key; Supplier Part Number 1: PCD1925CT-ND; Supplier Part Number 2: 712-1411-1-ND
footprint 0402
pins: 1, 2

## Indutor 2.2uH
designator L?, comment 2.2uH
Supplier 1: Digi-Key; Supplier 2: Digi-Key; Supplier Part Number 1: 587-2043-1-ND; Supplier Part Number 2: 445-3168-6-ND
footprint 0805
pins: 1, 2

## Indutor 5.1nH 0402
designator L?, comment 5.1nH
Supplier 1: Digi-Key; Supplier 2: Digi-Key; Supplier Part Number 1: P14851DKR-ND; Supplier Part Number 2: 712-1461-1-ND
footprint 0402
pins: 1, 2

## Indutor 6.2nH 0402
designator L?, comment 6.2nH
6.2nH 0402; Supplier 1: Digi-Key; Supplier 2: Digi-Key; Supplier Part Number 1: P14854DKR-ND; Supplier Part Number 2: 587-1514-1-ND
footprint 0402
pins: 1, 2

## Indutor 12nH 0402
designator L?, comment 12nH
12nH 0402; Supplier 1: Digi-Key; Supplier 2: Digi-Key; Supplier Part Number 1: PCD1936CT-ND; Supplier Part Number 2: 587-1520-6-ND
footprint 0402
pins: 1, 2

## Indutor 15nH 0402
designator L?, comment 15nH
15nH 0402; Supplier 1: Digi-Key; Supplier 2: Digi-Key; Supplier Part Number 1: PCD1937DKR-ND; Supplier Part Number 2: 712-1408-1-ND
footprint 0402
pins: 1, 2

## Indutor 20nH 0402
designator L?, comment 20nH
20nH 0402; Supplier 1: Digi-Key; Supplier 2: Digi-Key; Supplier Part Number 1: P14865DKR-ND; Supplier Part Number 2: 587-1790-6-ND
footprint 0402
pins: 1, 2

## Indutor 62nH 0402
designator L?, comment 62nH
62nH 0402; Supplier 1: Digi-Key; Supplier Part Number 1: 490-6836-6-ND
footprint 0402
pins: 1, 2

## Indutor 75nH 0402
designator L?, comment 75nH
75nH 0402; Supplier 1: Digi-Key; Supplier 2: Digi-Key; Supplier Part Number 1: 445-6317-1-ND; Supplier Part Number 2: 490-6843-6-ND
footprint 0402
pins: 1, 2

## Indutor 91nH 0402
designator L?, comment 91nH
91nH 0402; Supplier 1: Digi-Key; Supplier 2: Digi-Key; Supplier Part Number 1: 445-6318-6-ND; Supplier Part Number 2: 490-6853-6-ND
footprint 0402
pins: 1, 2

## Indutor 100nH 0402
designator L?, comment 100nH
100nH 0402; Supplier 1: Digi-Key; Supplier 2: Digi-Key; Supplier Part Number 1: PCD1947DKR-ND; Supplier Part Number 2: 445-1479-1-ND
footprint 0402
pins: 1, 2

## Indutor 120nH 0402
designator L?, comment 120nH
120nH 0402; Supplier 1: Digi-Key; Supplier 2: Digi-Key; Supplier Part Number 1: 445-3072-1-ND; Supplier Part Number 2: 490-4091-1-ND
footprint 0402
pins: 1, 2

## IR12-21C/TR8
designator D?
LED IR RIGHT ANGLE SMD; Supplier 1: Digi-Key; Supplier Part Number 1: 1080-1351-1-ND
footprint 2-SMD
pins: 1 +, 2 -

## Jack J4 DC-005
designator J?, comment Conector J4 2.5/5.5mm
Supplier 1: Solda Fria
footprint Jack J4 DC-005
pins: 1, 2, 3

## LED IR IR11-21C/TR8 1206
designator L?  (value not drawn)
LED IR TOP VIEW FLAT CLEAR 1206 100º
footprint LED 1206
pins: 1 +, 2 -

## LED RED BR1102W-TR
designator L?  (value not drawn)
LED RED CLEAR 1206 SMD 82º; Supplier 1: Digi-Key; Supplier Part Number 1: 404-1048-1-ND
footprint LED 1206
pins: 1 +, 2 -

## LM75BDP
designator U?
IC OPAMP GP 1MHZ RRO 8MSOP; Supplier 1: Digi-Key; Supplier Part Number 1: 568-4768-6-ND
footprint TSSOP-08 (TSOP, 8-Leads, Body 3x3mm, Pitch 0.65mm, IPC Low Density)
pins: 1 SDA, 2 SCL, 3 OS, 4 GND, 5 A2, 6 A1, 7 A0, 8 VCC

## LM3671MF-1.2
designator U?
Step-down DC-DC converter; Supplier 1: Digi-Key; Supplier Part Number 1: 296-35177-6-ND
footprint SOT-23-5 (SOT23,5-Leads, Body 2.9x1.6mm, Pitch 0.95mm, Lead Span 2.7mm, IPC Medium Density)
pins: 1 Vin (power), 2 GND (power), 3 EN (in), 4 FB (in), 5 SW (out)

## LTST-C190KFKT
designator D?  (value not drawn)
LED YELLOW ORANGE CLEAR 0603 SMD; Supplier 1: Digi-Key; Supplier Part Number 1: 160-1434-1-ND
footprint LED 0603 SMD
pins: 1 +, 2 -

## LTST-C191KGKT
designator D?  (value not drawn)
LED GREEN CLEAR THIN 0603 SMD; Supplier 1: Digi-Key; Supplier Part Number 1: 160-1446-1-ND
footprint LED 0603 SMD
pins: 1 +, 2 -

## LTST-C191TBKT
designator D?  (value not drawn)
LED 468NM BLUE CLEAR 0603 SMD; Supplier 1: Digi-Key; Supplier Part Number 1: 160-1647-1-ND
footprint LED 0603 SMD
pins: 1 +, 2 -

## LTST-S220GKT
designator D?
LED RT ANGLE GREEN CLR 0805; Supplier 1: Digi-Key; Supplier Part Number 1: 160-1218-1-ND
footprint LED 1206
pins: 1 +, 2 -

## MCP4728
designator U?
IC DAC 12BIT W/I2C 10-MSOP; Supplier 1: Digi-Key; Supplier Part Number 1: MCP4728-E/UN-ND
footprint MSOP-10 (TSSOP, 10-Leads, Body 3x3mm, Pitch 0.5mm, IPC Medium Density)
pins: 1 VDD, 2 SCL, 3 SDA, 4 LDAC/, 5 RDY, 6 VoutA, 7 VoutB, 8 VoutC, 9 VoutD, 10 VSS

## MCP73831T-2ACI/OT
designator U?
IC CONTROLLR LI-ION 4.2V SOT23-5; Supplier 1: Digi-Key; Supplier Part Number 1: MCP73831T-2ACI/OTCT-ND
footprint SOT-23-5 (SOT23,5-Leads, Body 2.9x1.6mm, Pitch 0.95mm, Lead Span 2.7mm, IPC Medium Density)
pins: 1 STAT, 2 Vss, 3 VBAT, 4 Vdd, 5 PROG

## MICRO_SD/MMC_CP_NEWTFC-WPAPR-08
designator SD/MMC?
footprint TFC-WPAPR-08 (USECOMPONENTLIBRARY=T)
pins: 1 DAT2/RES, 2 CD/DAT3/CS, 3 CMD/DI, 4 VDD, 5 CLK/SCLK, 6 VSS, 7 DAT0/DO, 8 DAT1/RES, 9 CP_E, 10 PACK1, 11 PACK2, 12 PACK3, 13 PACK4

## MMA8452Q
designator U?
IC ACCELER 2G/4G/8G 3AXIS 16QFN; Supplier 1: Digi-Key; Supplier Part Number 1: MMA8452QR1CT-ND
footprint 16-VFDFN
pins: 1 VDDIO, 2 BYP, 3 DNC, 4 SCL/SPC, 5 GND, 6 SDA/SDI/SDO, 7 SA0, 8 NC hidden, 9 INT2, 10 GND, 11 INT1, 12 GND, 13 NC hidden, 14 VDD, 15 NC hidden, 16 NC hidden

## MMA8453QT
designator U?
IC ACCELEROMETER 3AXIS 16QFN; Supplier 1: Digi-Key; Supplier Part Number 1: MMA8453QT-ND
footprint QFN16 3X3X1 (QFN 16 3X3X1)
pins: 1 VDDIO, 2 BYP, 3 NC, 4 SCL, 5 GND, 6 SDA, 7 SA0, 8 NC, 9 INT2, 10 GND, 11 INT1, 12 GND, 13 NC, 14 VDD, 15 NC, 16 NC

## MMSZ5231B-7-F
designator D?
DIODE ZENER 5.1V 500MW SOD123; Supplier 1: Digi-Key; Supplier Part Number 1: MMSZ5231B-FDICT-ND
footprint SOD-123F (Powerlite-123)
pins: 1 +, 2 -

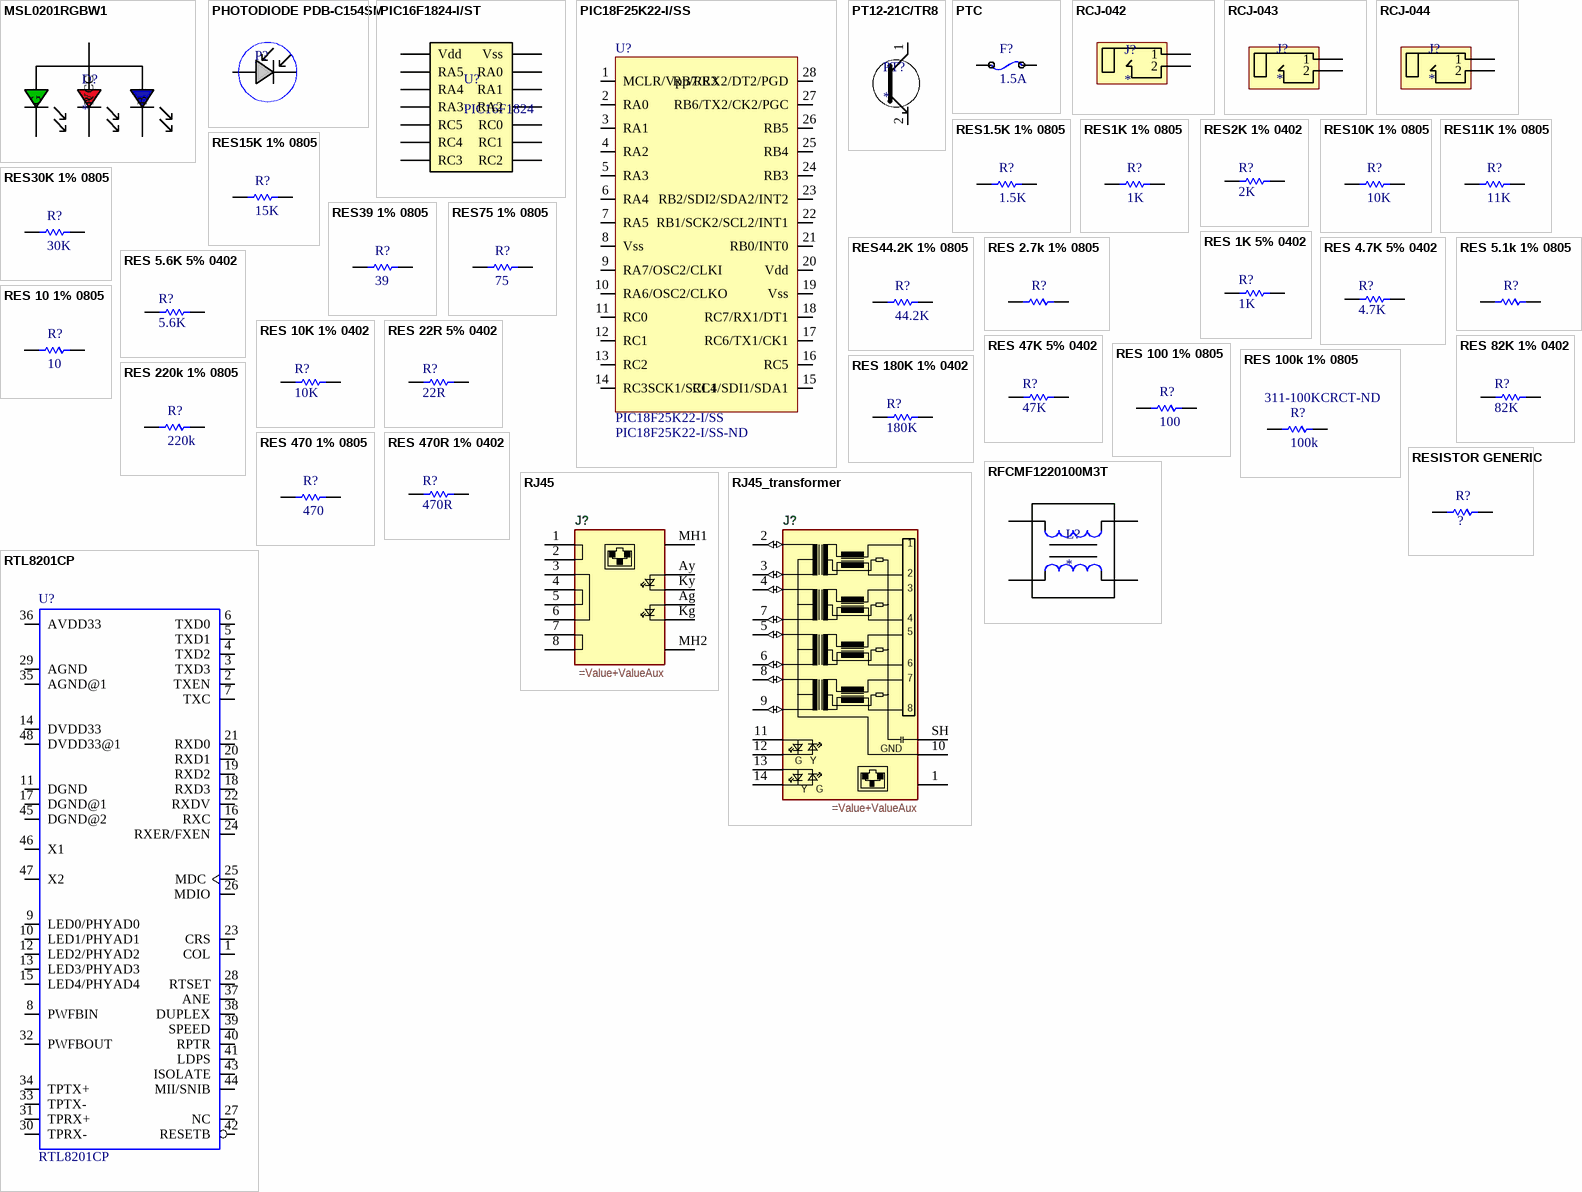
[diagram p3: symbols MSL0201RGBW1 to RTL8201CP]

## MSL0201RGBW1
designator D?
LED CHIP RGB WHITE DIFF 20MA SMD; Supplier 1: Digi-Key; Supplier Part Number 1: MSL0201RGBW1CT-ND
footprint 2-SMD,4 LEAD
pins: 1 G, 2 R, 3 B, 4 VCC

## PHOTODIODE PDB-C154SM
designator P?  (value not drawn)
PHOTODIODE BLUE 2.10MM SQ SMD; Supplier 1: Digi-Key; Supplier Part Number 1: PDB-C154SMCT-ND
footprint PDB-C154SM (PDB-C154SM PHOTODIODE CUSTOM)
pins: 1 +, 2 -

## PIC16F1824-I/ST
designator U?, comment PIC16F1824
IC MCU 8BIT 7KB FLASH 14TSSOP; Supplier 1: Digi-Key; Supplier Part Number 1: PIC16F1824-I/ST-ND
footprint TSSOP-14 (TSOP, 14-Leads, Body 5x4.4mm, Pitch 0.65mm, IPC Low Density)
pins: 1 Vdd, 2 RA5, 3 RA4, 4 RA3, 5 RC5, 6 RC4, 7 RC3, 8 RC2, 9 RC1, 10 RC0, 11 RA2, 12 RA1, 13 RA0, 14 Vss

## PIC18F25K22-I/SS
designator U?  Supplier Part Number 1: PIC18F25K22-I/SS-ND
Supplier 1: Digi-Key
footprint SSOP-28_M (SOP, 28-Leads, Body 10.2x5.3mm, Pitch 0.65mm, IPC Low Density)
pins: 1 MCLR/Vpp/RE3, 2 RA0, 3 RA1, 4 RA2, 5 RA3, 6 RA4, 7 RA5, 8 Vss, 9 RA7/OSC2/CLKI, 10 RA6/OSC2/CLKO, 11 RC0, 12 RC1, 13 RC2, 14 RC3SCK1/SCL1, 15 RC4/SDI1/SDA1, 16 RC5, 17 RC6/TX1/CK1, 18 RC7/RX1/DT1, 19 Vss, 20 Vdd, 21 RB0/INT0, 22 RB1/SCK2/SCL2/INT1, 23 RB2/SDI2/SDA2/INT2, 24 RB3, 25 RB4, 26 RB5, 27 RB6/TX2/CK2/PGC, 28 RB7/RX2/DT2/PGD

## PT12-21C/TR8
designator PT?
PHOTOTRANSISTOR WATER CLR RA SMD; Supplier 1: Digi-Key; Supplier Part Number 1: 1080-1378-1-ND
footprint 2-SMD
pins: 1, 2

## PTC
designator F?, comment 1.5A
PTC RESETTABLE 1.50A 6V 1206; Supplier 1: Digi-Key; Supplier Part Number 1: MF-NSMF150-2CT-ND
footprint 1206
pins: 1, 2

## RCJ-042
designator J?
CONN RCA JACK R/A RED PCB; Supplier 1: Digi-Key
footprint (RCA) Jack (Female, Mono,3.20mm ID, 9.00mm OD (RCA))
pins: 1, 2

## RCJ-043
designator J?
CONN RCA JACK R/A WHITE PCB; Supplier 1: Digi-Key
footprint (RCA) Jack (Female, Mono,3.20mm ID, 9.00mm OD (RCA))
pins: 1, 2

## RCJ-044
designator J?
CONN RCA JACK R/A YELLOW PCB; Supplier 1: Digi-Key
footprint (RCA) Jack (Female, Mono,3.20mm ID, 9.00mm OD (RCA))
pins: 1, 2

## RES1.5K 1% 0805
designator R?, comment 1.5K
Supplier 1: Digi-Key; Supplier Part Number 1: P1.50KCCT-ND
footprint 0805
pins: 1, 2

## RES1K 1% 0805
designator R?, comment 1K
Supplier 1: Digi-Key; Supplier 2: Digi-Key; Supplier Part Number 1: P1.00KCCT-ND; Supplier Part Number 2: 311-1.00KCRTR-ND
footprint 0805
pins: 1, 2

## RES2K 1% 0402
designator R?, comment 2K
Supplier 1: Digi-Key; Supplier Part Number 1: P2.00KLCT-ND
footprint 0402
pins: 1, 2

## RES10K 1% 0805
designator R?, comment 10K
Supplier 1: Digi-Key; Supplier 2: Digi-Key; Supplier 3: Digi-Key; Supplier Part Number 1: P10.0KCTR-ND; Supplier Part Number 2: CR0805-FX-1002ELFCT-ND; Supplier Part Number 3: 311-10.0KCRCT-ND
footprint 0805
pins: 1, 2

## RES11K 1% 0805
designator R?, comment 11K
Supplier 1: Digi-Key; Supplier 2: Digi-Key; Supplier Part Number 1: P11.0KCCT-ND; Supplier Part Number 2: CR0805-FX-1102ELFCT-ND
footprint 0805
pins: 1, 2

## RES15K 1% 0805
designator R?, comment 15K
Supplier 1: Digi-Key; Supplier 2: Digi-Key; Supplier Part Number 1: P15.0KCCT-ND; Supplier Part Number 2: 311-15.0KCRCT-ND
footprint 0805
pins: 1, 2

## RES30K 1% 0805
designator R?, comment 30K
Supplier 1: Digi-Key; Supplier 2: Digi-Key; Supplier Part Number 1: P30.0KCCT-ND; Supplier Part Number 2: 311-30.0KCRDKR-ND
footprint 0805
pins: 1, 2

## RES39 1% 0805
designator R?, comment 39
Supplier 1: Digi-Key; Supplier 2: Digi-Key; Supplier Part Number 1: 311-30.0KCRCT-ND; Supplier Part Number 2: P39.0CCT-ND
footprint 0805
pins: 1, 2

## RES44.2K 1% 0805
designator R?, comment 44.2K
Supplier 1: Digi-Key; Supplier 2: Digi-Key; Supplier Part Number 1: P44.2CTR-ND; Supplier Part Number 2: 311-44.2CRCT-ND
footprint 0805
pins: 1, 2

## RES75 1% 0805
designator R?, comment 75
Supplier 1: Digi-Key; Supplier Part Number 1: P75.0CCT-ND
footprint 0805
pins: 1, 2

## RES 1K 5% 0402
designator R?, comment 1K
Supplier 1: Digi-Key; Supplier Part Number 1: P1.0KJCT-ND
footprint 0402
pins: 1, 2

## RES 2.7k 1% 0805
designator R?, comment 2.7K  (value not drawn)
Supplier 1: Digi-Key; Supplier Part Number 1: 311-2.70KCRCT-ND
footprint 0805
pins: 1, 2

## RES 4.7K 5% 0402
designator R?, comment 4.7K
Supplier 1: Digi-Key; Supplier Part Number 1: P4.7KJCT-ND
footprint 0402
pins: 1, 2

## RES 5.1k 1% 0805
designator R?, comment 5.1k  (value not drawn)
Supplier 1: Digi-Key; Supplier Part Number 1: 311-5.10KCRCT-ND
footprint 0805
pins: 1, 2

## RES 5.6K 5% 0402
designator R?, comment 5.6K
Supplier 1: Digi-Key; Supplier Part Number 1: RMCF0402JT5K60CT-ND
footprint 0402
pins: 1, 2

## RES 10 1% 0805
designator R?, comment 10
Supplier 1: Digi-Key; Supplier Part Number 1: 311-10.0CRCT-ND
footprint 0805
pins: 1, 2

## RES 10K 1% 0402
designator R?, comment 10K
Supplier 1: Digi-Key; Supplier Part Number 1: 311-10KJRCT-ND
footprint 0402
pins: 1, 2

## RES 22R 5% 0402
designator R?, comment 22R
Supplier 1: Digi-Key; Supplier Part Number 1: P22JCT-ND
footprint 0402
pins: 1, 2

## RES 47K 5% 0402
designator R?, comment 47K
Supplier 1: Digi-Key; Supplier Part Number 1: P47KJCT-ND
footprint 0402
pins: 1, 2

## RES 82K 1% 0402
designator R?, comment 82K
Supplier 1: Digi-Key; Supplier Part Number 1: P82.0KLCT-ND
footprint 0402
pins: 1, 2

## RES 100 1% 0805
designator R?, comment 100
Supplier 1: Digi-Key; Supplier Part Number 1: 311-100CRCT-ND
footprint 0805
pins: 1, 2

## RES 100k 1% 0805
designator R?, comment 100k  Supplier Part Number 1: 311-100KCRCT-ND
Supplier 1: Digi-Key
footprint 0805
pins: 1, 2

## RES 180K 1% 0402
designator R?, comment 180K
Supplier 1: Digi-Key; Supplier Part Number 1: RHM180KCDCT-ND
footprint 0402
pins: 1, 2

## RES 220k 1% 0805
designator R?, comment 220k
Supplier 1: Digi-Key; Supplier Part Number 1: 311-220KCRCT-ND
footprint 0805
pins: 1, 2

## RES 470 1% 0805
designator R?, comment 470
Supplier 1: Digi-Key; Supplier Part Number 1: 311-470CRCT-ND
footprint 0805
pins: 1, 2

## RES 470R 1% 0402
designator R?, comment 470R
Supplier 1: Digi-Key; Supplier Part Number 1: RHM470CDCT-ND
footprint 0402
pins: 1, 2

## RESISTOR GENERIC
designator R?  (value not drawn)
Value: ?
footprint 0402
footprint 0603
footprint 0805
pins: 1, 2

## RFCMF1220100M3T
designator L?
footprint 0805-4 Lead
pins: 1, 2, 3, 4

## RJ45
designator J?
=Description
pins: 1, 2, 3, 4, 5, 6, 7, 8, Ag, Ay, Kg, Ky, MH1, MH2

## RJ45_transformer
designator J?
=Description
pins: 1 (power), 2 (io), 3 (io), 4 (io), 5 (io), 6 (io), 7 (io), 8 (io), 9 (io), 10 (power), 11, 12, 13, 14, SH
text: GND; G; Y

## RTL8201CP
designator U?
footprint LQFP48 (LQFP48 - 48 pin Low-profile Quad Flat Package)
pins: 1 COL, 2 TXEN, 3 TXD3, 4 TXD2, 5 TXD1, 6 TXD0, 7 TXC, 8 PWFBIN, 9 LED0/PHYAD0, 10 LED1/PHYAD1, 11 DGND, 12 LED2/PHYAD2, 13 LED3/PHYAD3, 14 DVDD33, 15 LED4/PHYAD4, 16 RXC, 17 DGND@1, 18 RXD3, 19 RXD2, 20 RXD1, 21 RXD0, 22 RXDV, 23 CRS, 24 RXER/FXEN, 25 MDC, 26 MDIO, 27 NC, 28 RTSET, 29 AGND, 30 TPRX-, 31 TPRX+, 32 PWFBOUT, 33 TPTX-, 34 TPTX+, 35 AGND@1, 36 AVDD33, 37 ANE, 38 DUPLEX, 39 SPEED, 40 RPTR, 41 LDPS, 42 RESETB, 43 ISOLATE, 44 MII/SNIB, 45 DGND@2, 46 X1, 47 X2, 48 DVDD33@1

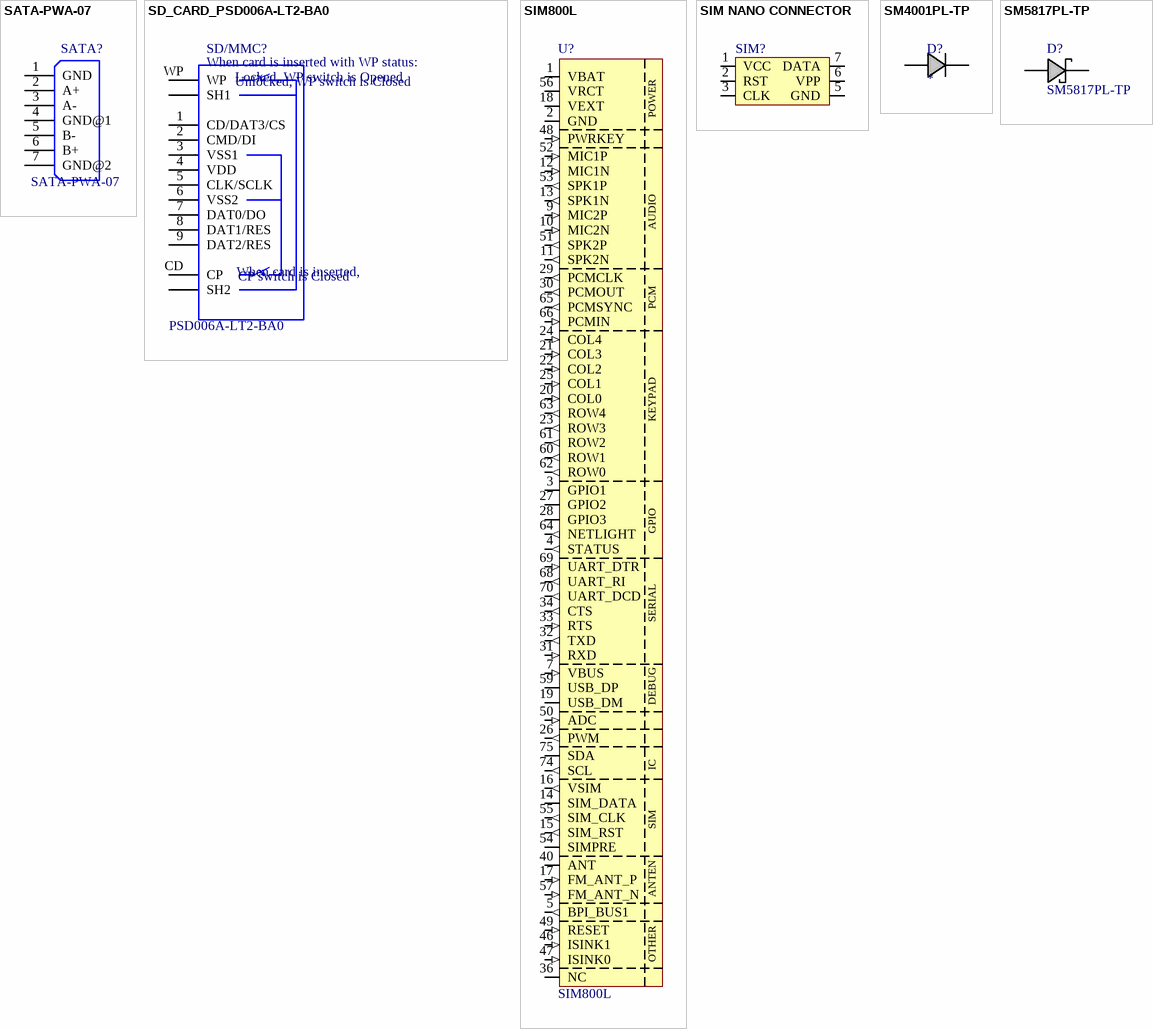
[diagram p4: symbols SATA-PWA-07 to SM5817PL-TP]

## SATA-PWA-07
designator SATA?
footprint SATA-PWA-07 (USECOMPONENTLIBRARY=T)
pins: 1 GND, 2 A+, 3 A-, 4 GND@1, 5 B-, 6 B+, 7 GND@2

## SD_CARD_PSD006A-LT2-BA0
designator SD/MMC?, comment PSD006A-LT2-BA0
footprint SD_CARD (SD CARD)
pins: 1 CD/DAT3/CS, 2 CMD/DI, 3 VSS1, 4 VDD, 5 CLK/SCLK, 6 VSS2, 7 DAT0/DO, 8 DAT1/RES, 9 DAT2/RES, CD CP, SH1, SH2, WP
text: When card is inserted with WP status:; Locked, WP switch is Opened; Unlocked, WP switch is Closed; When card is inserted,; CP switch is Closed

## SIM800L
designator U?
footprint SIM800L
pins: 1 VBAT (power), 2 GND, 3 GPIO1 (io), 4 STATUS (out), 5 BPI_BUS1 (out), 6 GND hidden to GND, 7 VBUS (in), 8 GND hidden to GND, 9 MIC2P (in), 10 MIC2N (in), 11 SPK2N (out), 12 MIC1N (in), 13 SPK1N (out), 14 SIM_DATA (io), 15 SIM_RST (out), 16 VSIM (out), 17 FM_ANT_P (in), 18 VEXT (power), 19 USB_DM (io), 20 COL0 (in), 21 COL3 (in), 22 COL2 (in), 23 ROW3 (out), 24 COL4 (in), 25 COL1 (in), 26 PWM (out), 27 GPIO2 (io), 28 GPIO3 (io), 29 PCMCLK (out), 30 PCMOUT (out), 31 RXD (in), 32 TXD (out), 33 RTS (in), 34 CTS (out), 35 GND hidden to GND, 36 NC, 37 GND hidden to GND, 38 GND hidden to GND, 39 GND hidden to GND, 40 ANT (io), 41 GND hidden to GND, 42 VBAT (power) hidden to VBAT, 43 GND hidden to GND, 44 GND hidden to GND, 45 GND hidden to GND, 46 ISINK1 (in), 47 ISINK0 (in), 48 PWRKEY (in), 49 RESET (in), 50 ADC (in), 51 SPK2P (out), 52 MIC1P (in), 53 SPK1P (out), 54 SIMPRE (io), 55 SIM_CLK (out), 56 VRCT (power), 57 FM_ANT_N (in), 58 GND hidden to GND, 59 USB_DP (io), 60 ROW1 (out), 61 ROW2 (out), 62 ROW0 (out), 63 ROW4 (out), 64 NETLIGHT (out), 65 PCMSYNC (out), 66 PCMIN (in), 67 GND hidden to GND, 68 UART_RI (out), 69 UART_DTR (in), 70 UART_DCD (out), 71 GND hidden to GND, 72 GND hidden to GND, 73 GND hidden to GND, 74 SCL (out), 75 SDA (io), 76 GND hidden to GND, 77 GND hidden to GND, 78 GND hidden to GND, 79 GND hidden to GND, 80 GND hidden to GND, 81 GND hidden to GND, 82 GND hidden to GND, 83 GND hidden to GND, 84 GND hidden to GND, 85 GND hidden to GND, 86 GND hidden to GND, 87 GND hidden to GND, 88 GND hidden to GND
text: POWER; AUDIO; PCM; KEYPAD; GPIO; SERIAL; DEBUG; IC; SIM; ANTEN; OTHER

## SIM NANO CONNECTOR
designator SIM?  (value not drawn)
CONN SMART CARD PUSH-PULL; Supplier 1: Digi-Key; Supplier Part Number 1: 732-5954-1-ND; ERROR PINOUT: *
footprint NANOSIM
pins: 1 VCC, 2 RST, 3 CLK, 5 GND, 6 VPP, 7 DATA

## SM4001PL-TP
designator D?
DIODE GP 50V 1A POWERLITE123; Supplier 1: Digi-Key; Supplier Part Number 1: SM4001PL-TPMSDKR-ND
footprint SOD-123F (Powerlite-123)
pins: 1 +, 2 -

## SM5817PL-TP
designator D?
DIODE SCHOTTKY 20V 1A SOD123FL; Supplier 1: Digi-Key; Supplier Part Number 1: SM5817PL-TPMSCT-ND
footprint SOD-123F (Powerlite-123)
pins: 1 +, 2 -

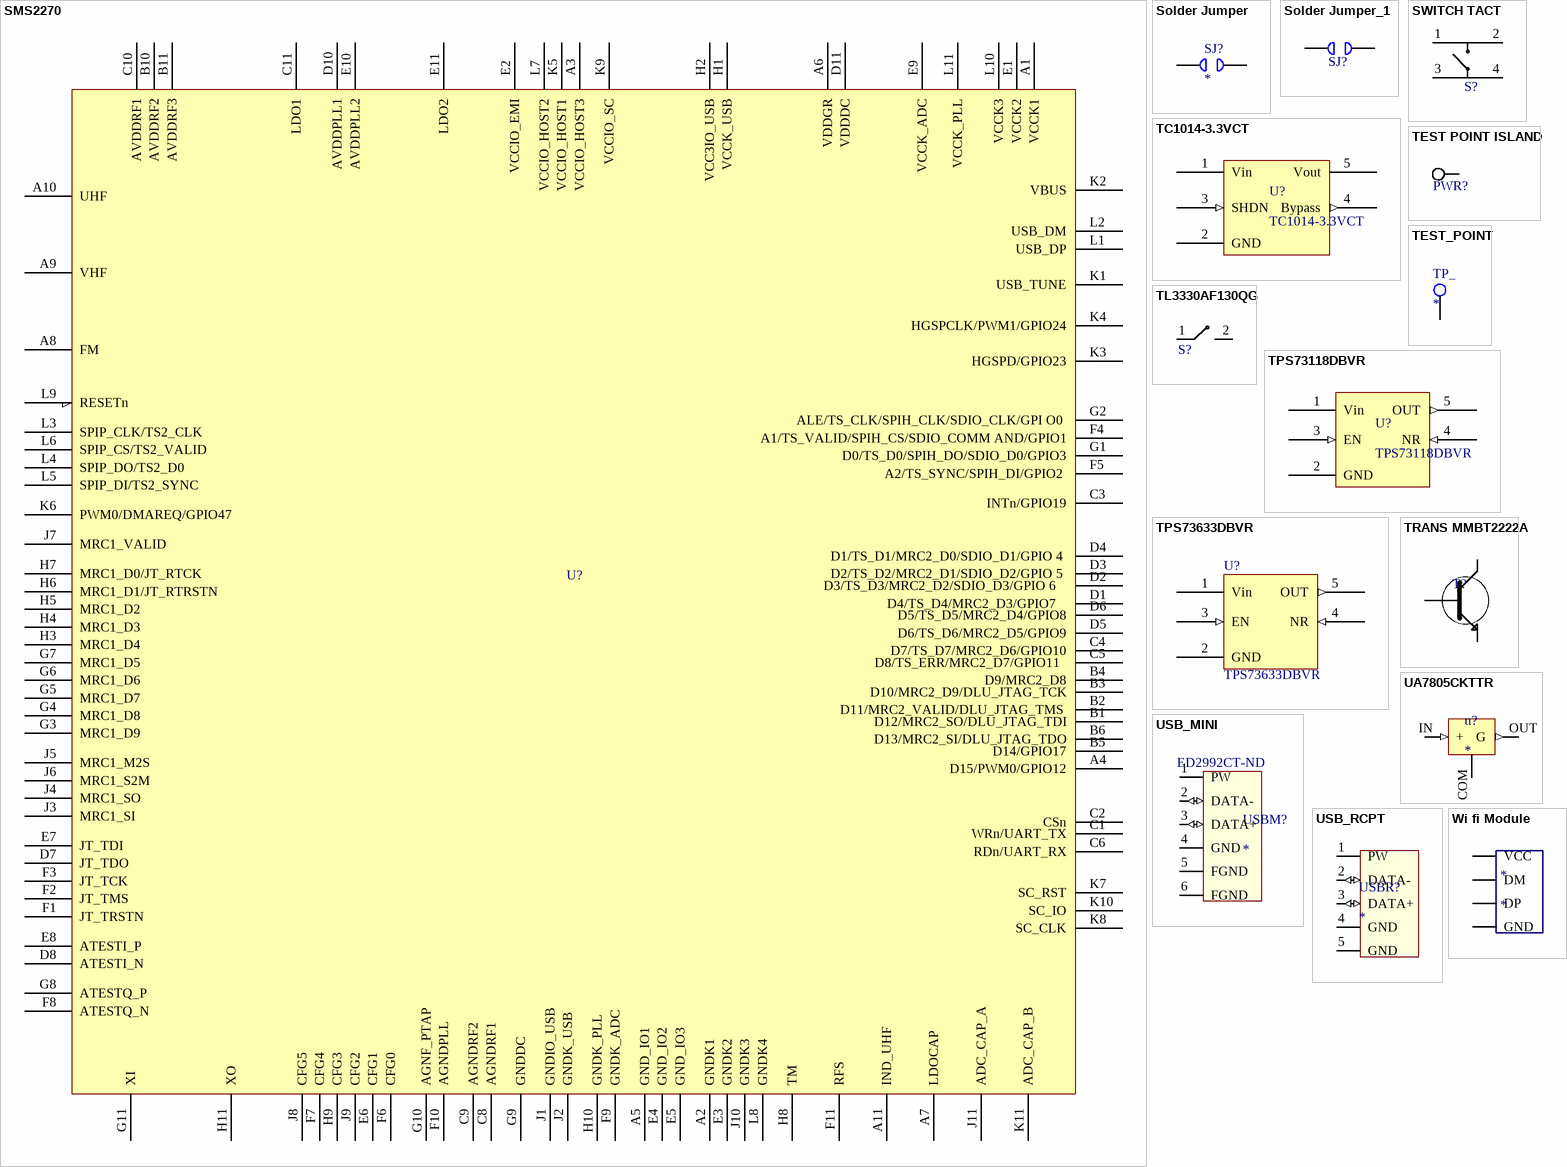
[diagram p5: symbols SMS2270 to Wi fi Module]

## SMS2270
designator U?  (value not drawn)
SMS2270
footprint BGA_SMS2270
pins: A1 VCCK1, A2 GNDK1, A3 VCCIO_HOST3, A4 D15/PWM0/GPIO12, A5 GND_IO1, A6 VDDGR, A7 LDOCAP, A8 FM, A9 VHF , A10 UHF , A11 IND_UHF, B1 D12/MRC2_SO/DLU_JTAG_TDI, B2 D11/MRC2_VALID/DLU_JTAG_TMS , B3 D10/MRC2_D9/DLU_JTAG_TCK, B4 D9/MRC2_D8, B5 D14/GPIO17, B6 D13/MRC2_SI/DLU_JTAG_TDO, B10 AVDDRF2, B11 AVDDRF3, C1 WRn/UART_TX, C2 CSn, C3 INTn/GPIO19, C4 D7/TS_D7/MRC2_D6/GPIO10, C5 D8/TS_ERR/MRC2_D7/GPIO11  , C6 RDn/UART_RX, C8 AGNDRF1, C9 AGNDRF2, C10 AVDDRF1, C11 LDO1, D1 D4/TS_D4/MRC2_D3/GPIO7   , D2 D3/TS_D3/MRC2_D2/SDIO_D3/GPIO 6   , D3 D2/TS_D2/MRC2_D1/SDIO_D2/GPIO 5 , D4 D1/TS_D1/MRC2_D0/SDIO_D1/GPIO 4 , D5 D6/TS_D6/MRC2_D5/GPIO9, D6 D5/TS_D5/MRC2_D4/GPIO8, D7 JT_TDO, D8 ATESTI_N, D10 AVDDPLL1, D11 VDDDC, E1 VCCK2, E2 VCCIO_EMI, E3 GNDK2, E4 GND_IO2, E5 GND_IO3, E6 CFG1, E7 JT_TDI, E8 ATESTI_P, E9 VCCK_ADC, E10 AVDDPLL2, E11 LDO2, F1 JT_TRSTN, F2 JT_TMS, F3 JT_TCK, F4 A1/TS_VALID/SPIH_CS/SDIO_COMM AND/GPIO1, F5 A2/TS_SYNC/SPIH_DI/GPIO2 , F6 CFG0, F7 CFG4, F8 ATESTQ_N, F9 GNDK_ADC, F10 AGNDPLL, F11 RFS, G1 D0/TS_D0/SPIH_DO/SDIO_D0/GPIO3, G2 ALE/TS_CLK/SPIH_CLK/SDIO_CLK/GPI O0 , G3 MRC1_D9, G4 MRC1_D8, G5 MRC1_D7, G6 MRC1_D6, G7 MRC1_D5 , G8 ATESTQ_P, G9 GNDDC, G10 AGNF_PTAP, G11 XI, H1 VCCK_USB, H2 VCC3IO_USB, H3 MRC1_D4, H4 MRC1_D3, H5 MRC1_D2 , H6 MRC1_D1/JT_RTRSTN, H7 MRC1_D0/JT_RTCK, H8 TM, H9 CFG3, H10 GNDK_PLL, H11 XO, J1 GNDIO_USB, J2 GNDK_USB, J3 MRC1_SI, J4 MRC1_SO, J5 MRC1_M2S, J6 MRC1_S2M, J7 MRC1_VALID, J8 CFG5, J9 CFG2, J10 GNDK3, J11 ADC_CAP_A, K1 USB_TUNE, K2 VBUS, K3 HGSPD/GPIO23, K4 HGSPCLK/PWM1/GPIO24, K5 VCCIO_HOST1, K6 PWM0/DMAREQ/GPIO47, K7 SC_RST, K8 SC_CLK, K9 VCCIO_SC, K10 SC_IO, K11 ADC_CAP_B, L1 USB_DP, L2 USB_DM, L3 SPIP_CLK/TS2_CLK, L4 SPIP_DO/TS2_D0, L5 SPIP_DI/TS2_SYNC, L6 SPIP_CS/TS2_VALID, L7 VCCIO_HOST2, L8 GNDK4, L9 RESETn, L10 VCCK3, L11 VCCK_PLL

## Solder Jumper
designator SJ?  (no BOM)
footprint SOLDER_JUMPER
pins: 1, 2

## Solder Jumper_1
designator SJ?, comment Solder Jumper  (value not drawn)  (no BOM)
footprint SOLDER_JUMPER
pins: 1, 2

## SWITCH TACT
designator S?  (value not drawn)
SWITCH TACTILE SPST-NO 0.05A 12V; Supplier 1: Digi-Key; Supplier Part Number 1: CKN9112CT-ND
footprint SWITCH SMD
pins: 1, 2, 3, 4

## TC1014-3.3VCT
designator U?
CMOS upgrades for older (bipolar)  Low Dropout Regulators (LDOs); Supplier 1: Digi-Key; Supplier Part Number 1: TC1014-3.3VCT713CT-ND
footprint SOT-23-5 (SOT23,5-Leads, Body 2.9x1.6mm, Pitch 0.95mm, Lead Span 2.7mm, IPC Medium Density)
pins: 1 Vin (power), 2 GND (power), 3 SHDN (in), 4 Bypass (out), 5 Vout (power)

## TEST POINT ISLAND
designator PWR?  (value not drawn)  (no BOM)
footprint ILHA
footprint POGO PIN 1MM
pins: 1

## TEST_POINT
designator TP_  (no BOM)
footprint TEST_POINT
pins: 1 Test_Point

## TL3330AF130QG
designator S?  (value not drawn)
SWITCH TACTILE SPST-NO 0.05A 12V; Supplier 1: Digi-Key; Supplier Part Number 1: EG4388CT-ND
footprint TL3330 QG
pins: 1, 2

## TPS73118DBVR
designator U?
low-dropout (LDO) linear  voltage regulators; Supplier 1: Farnell; Supplier 2: Digi-Key; Supplier Part Number 1: 1135388; Supplier Part Number 2: 296-27059-1-ND
footprint SOT-23-5 (SOT23,5-Leads, Body 2.9x1.6mm, Pitch 0.95mm, Lead Span 2.7mm, IPC Medium Density)
pins: 1 Vin (power), 2 GND (power), 3 EN (in), 4 NR (in), 5 OUT (out)

## TPS73633DBVR
designator U?
IC REG LDO 3.3V 0.4A SOT23-5; Supplier 1: Digi-Key; Supplier Part Number 1: 296-27064-1-ND
footprint SOT-23-5 (SOT23,5-Leads, Body 2.9x1.6mm, Pitch 0.95mm, Lead Span 2.7mm, IPC Medium Density)
pins: 1 Vin (power), 2 GND (power), 3 EN (in), 4 NR (in), 5 OUT (out)

## TRANS MMBT2222A
designator T?  (value not drawn)
TRANS NPN 40V 350MW SMD SOT23-3; Supplier 1: Digi-Key; Supplier Part Number 1: MMBT2222A-FDICT-ND
footprint SOT23-3 (SOT23, 3-Leads, Body 2.9x1.3mm, Pitch 0.95mm, Lead Span 2.5mm, IPC Low Density)
pins: 1, 2, 3

## UA7805CKTTR
designator u?
IC REG LDO 5V 1.5A DDPAK; Part Number: UA7805CKTTR; Supplier 1: Digi-Key; Supplier Part Number 1: 296-20796-2-ND
footprint DDPAK/TO-263-3 (TO-263-4, D²Pak (3 Leads + Tab), TO-263AA)
pins: COM, IN + (in), OUT G (out)

## USB_MINI
designator USBM?  Supplier Part Number 1: ED2992CT-ND
CONN MINI USB RCPT RA TYPE B SMD; Supplier 1: Digi-Key
footprint USB_MINI
pins: 1 PW (power), 2 DATA- (io), 3 DATA+ (io), 4 GND (power), 5 FGND (power), 6 FGND (power)

## USB_RCPT
designator USBR?
CONN RCPT USB 4POS UNIV SERIAL
footprint USB_RCTP
pins: 1 PW (power), 2 DATA- (io), 3 DATA+ (io), 4 GND (power), 5 GND (power)

## Wi fi Module
designator *
footprint HDR1X4 Wi Fi
pins: 1 VCC, 2 DM, 3 DP, 4 GND